# Altium integrated library TI Logic Buffer Line Driver.IntLib: 1053 symbols (part 7 of 17)
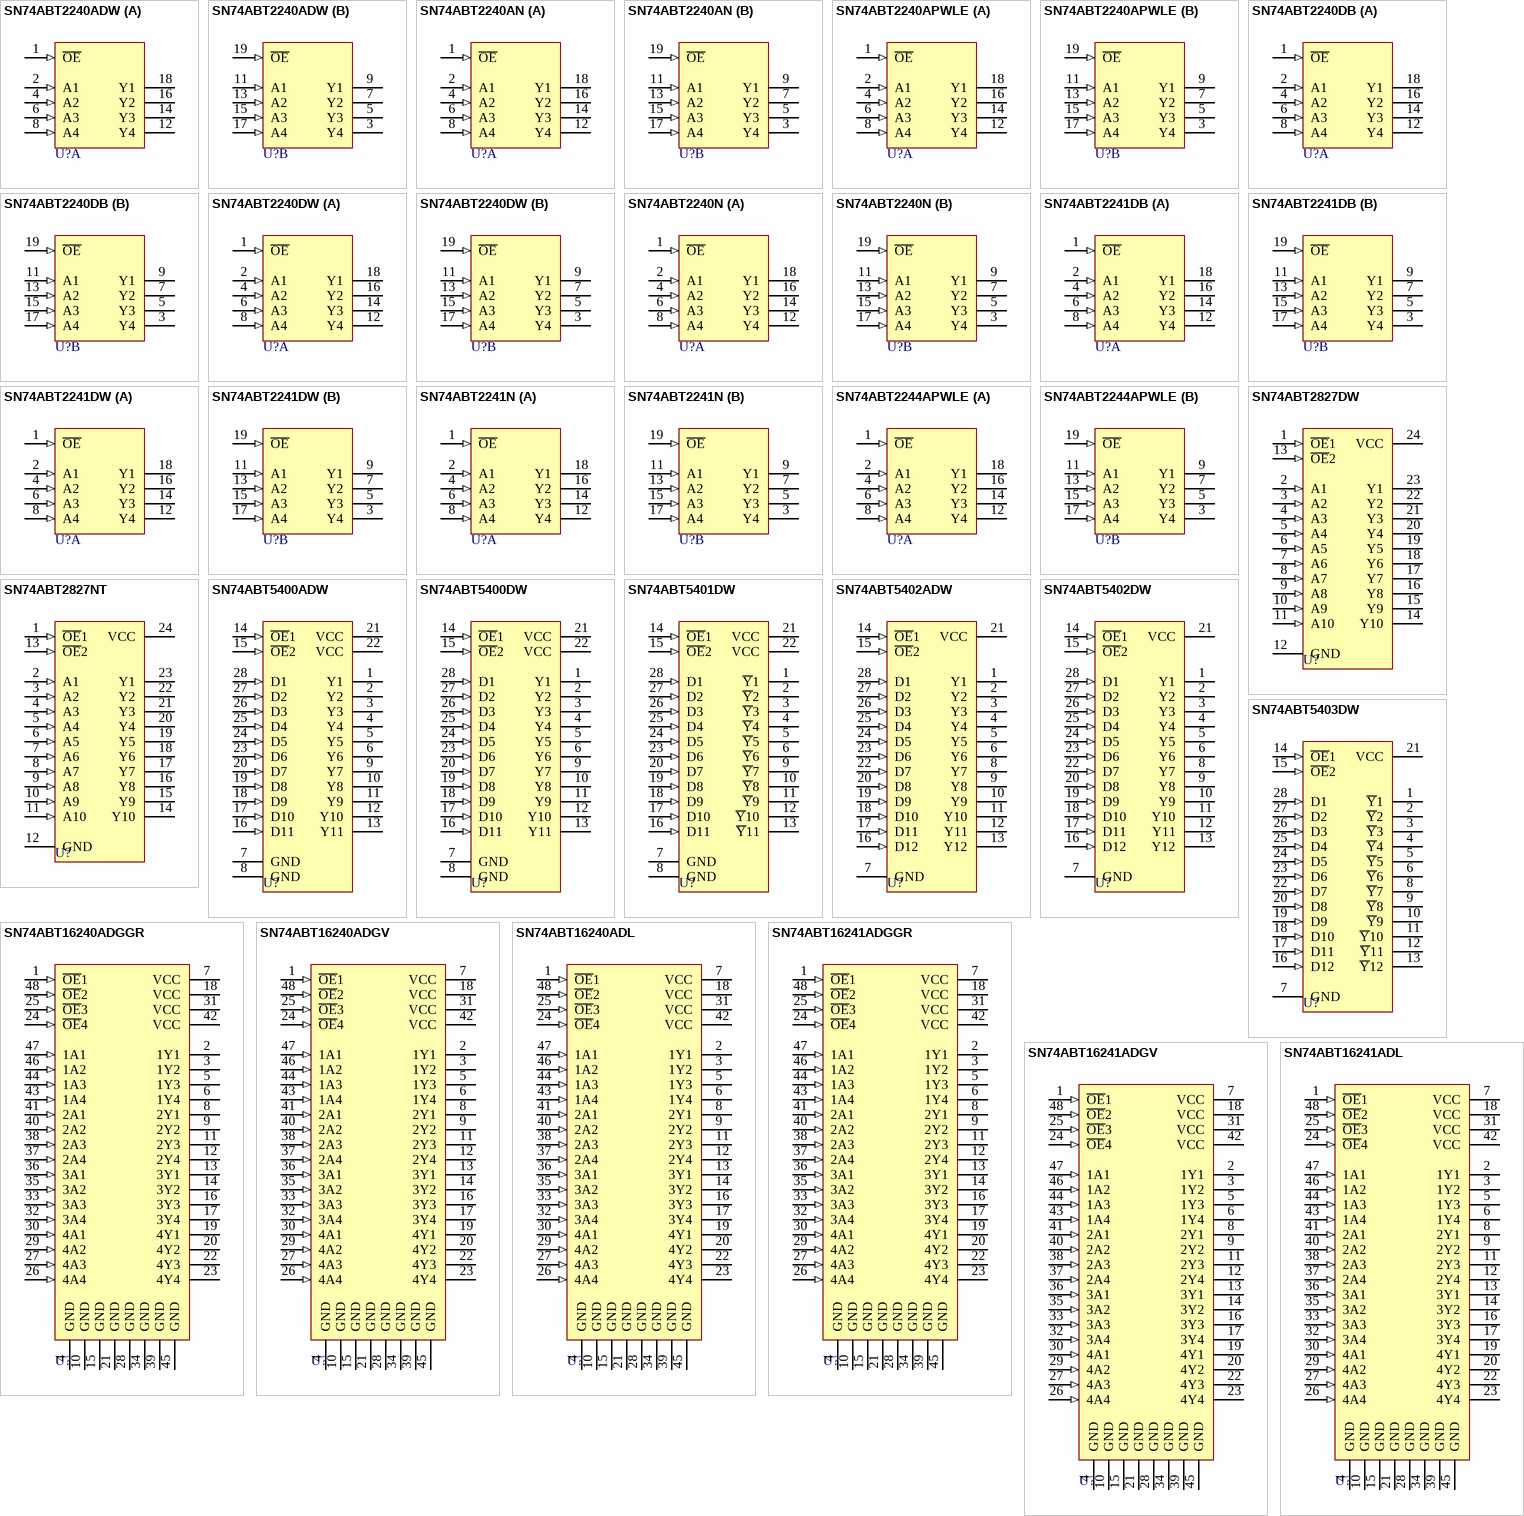
[diagram p51: symbols SN74ABT2240ADW to SN74ABT16241ADL]

## SN74ABT16241ADL
designator U?
16-Bit Buffer/Driver with 3-State Outputs; Package Information: Latest Revision: Jan-1998; Code - JEDEC: MO-118-AA; Code - IPC: SSO48; Published: 8-Jun-2000; Revision: 17-Jul-2002: Re-released for DXP Platform.; Datasheet: Latest Revision: Oct-1998; Package Reference: DL048; Publisher: Altium Limited
footprint DL048 (SSOP; 48 Leads; Body Width 7.5 mm; Pitch 0.635 mm)
signal-integrity model SN74ABT16241ADL
pins: 1 ~{OE}1 (in), 2 1Y1 (hiz), 3 1Y2 (hiz), 4 GND (power), 5 1Y3 (hiz), 6 1Y4 (hiz), 7 VCC (power), 8 2Y1 (hiz), 9 2Y2 (hiz), 10 GND (power), 11 2Y3 (hiz), 12 2Y4 (hiz), 13 3Y1 (hiz), 14 3Y2 (hiz), 15 GND (power), 16 3Y3 (hiz), 17 3Y4 (hiz), 18 VCC (power), 19 4Y1 (hiz), 20 4Y2 (hiz), 21 GND (power), 22 4Y3 (hiz), 23 4Y4 (hiz), 24 ~{OE}4 (in), 25 ~{OE}3 (in), 26 4A4 (in), 27 4A3 (in), 28 GND (power), 29 4A2 (in), 30 4A1 (in), 31 VCC (power), 32 3A4 (in), 33 3A3 (in), 34 GND (power), 35 3A2 (in), 36 3A1 (in), 37 2A4 (in), 38 2A3 (in), 39 GND (power), 40 2A2 (in), 41 2A1 (in), 42 VCC (power), 43 1A4 (in), 44 1A3 (in), 45 GND (power), 46 1A2 (in), 47 1A1 (in), 48 ~{OE}2 (in)

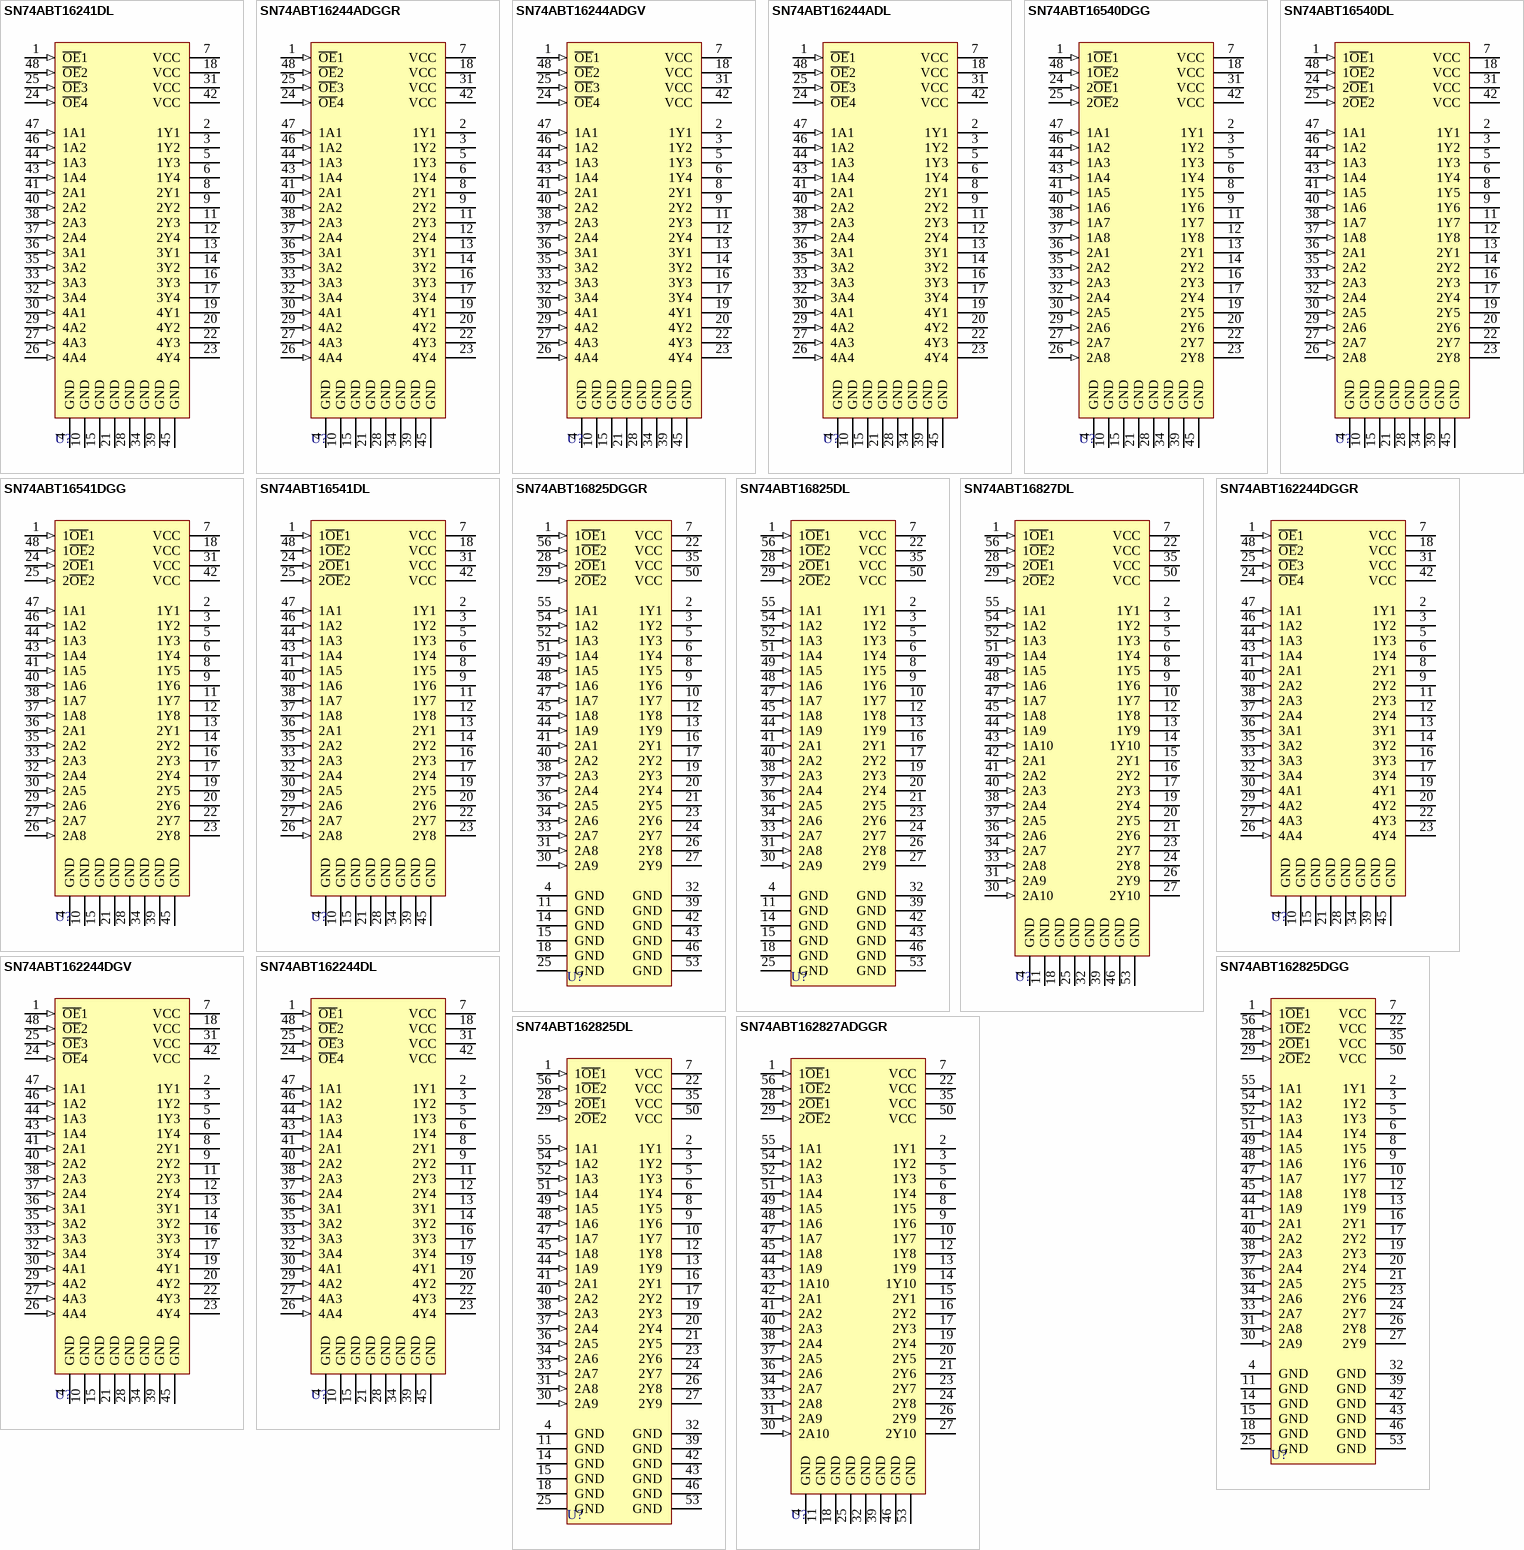
[diagram p17: symbols SN74ABT16241DL to SN74ABT162827ADGGR]

## SN74ABT16241DL
designator U?
16-Bit Buffer/Driver with 3-State Outputs; Package Information: Latest Revision: Jan-1998; Code - JEDEC: MO-118-AA; Code - IPC: SSO48; Published: 8-Jun-2000; Revision: 17-Jul-2002: Re-released for DXP Platform.; Datasheet: Latest Revision: May-1994; Package Reference: DL048; Publisher: Altium Limited
footprint DL048 (SSOP; 48 Leads; Body Width 7.5 mm; Pitch 0.635 mm)
signal-integrity model SN74ABT16241DL
pins: 1 ~{OE}1 (in), 2 1Y1 (hiz), 3 1Y2 (hiz), 4 GND (power), 5 1Y3 (hiz), 6 1Y4 (hiz), 7 VCC (power), 8 2Y1 (hiz), 9 2Y2 (hiz), 10 GND (power), 11 2Y3 (hiz), 12 2Y4 (hiz), 13 3Y1 (hiz), 14 3Y2 (hiz), 15 GND (power), 16 3Y3 (hiz), 17 3Y4 (hiz), 18 VCC (power), 19 4Y1 (hiz), 20 4Y2 (hiz), 21 GND (power), 22 4Y3 (hiz), 23 4Y4 (hiz), 24 ~{OE}4 (in), 25 ~{OE}3 (in), 26 4A4 (in), 27 4A3 (in), 28 GND (power), 29 4A2 (in), 30 4A1 (in), 31 VCC (power), 32 3A4 (in), 33 3A3 (in), 34 GND (power), 35 3A2 (in), 36 3A1 (in), 37 2A4 (in), 38 2A3 (in), 39 GND (power), 40 2A2 (in), 41 2A1 (in), 42 VCC (power), 43 1A4 (in), 44 1A3 (in), 45 GND (power), 46 1A2 (in), 47 1A1 (in), 48 ~{OE}2 (in)

## SN74ABT16244ADGGR
designator U?
16-Bit Buffer/Driver with 3-State Outputs; Package Information: Latest Revision: Jan-1998; Published: 8-Jun-2000; Revision: 17-Jul-2002: Re-released for DXP Platform.; Datasheet: Latest Revision: May-1997; Package Reference: DGG048; Publisher: Altium Limited
footprint DGG048 (Shrink Small Outline; 48 Leads; Body Width 6.1 mm; Pitch 0.5 mm)
signal-integrity model SN74ABT16244ADGGR
pins: 1 ~{OE}1 (in), 2 1Y1 (hiz), 3 1Y2 (hiz), 4 GND (power), 5 1Y3 (hiz), 6 1Y4 (hiz), 7 VCC (power), 8 2Y1 (hiz), 9 2Y2 (hiz), 10 GND (power), 11 2Y3 (hiz), 12 2Y4 (hiz), 13 3Y1 (hiz), 14 3Y2 (hiz), 15 GND (power), 16 3Y3 (hiz), 17 3Y4 (hiz), 18 VCC (power), 19 4Y1 (hiz), 20 4Y2 (hiz), 21 GND (power), 22 4Y3 (hiz), 23 4Y4 (hiz), 24 ~{OE}4 (in), 25 ~{OE}3 (in), 26 4A4 (in), 27 4A3 (in), 28 GND (power), 29 4A2 (in), 30 4A1 (in), 31 VCC (power), 32 3A4 (in), 33 3A3 (in), 34 GND (power), 35 3A2 (in), 36 3A1 (in), 37 2A4 (in), 38 2A3 (in), 39 GND (power), 40 2A2 (in), 41 2A1 (in), 42 VCC (power), 43 1A4 (in), 44 1A3 (in), 45 GND (power), 46 1A2 (in), 47 1A1 (in), 48 ~{OE}2 (in)

## SN74ABT16244ADGV
designator U?
16-Bit Buffer/Driver with 3-State Outputs; Package Information: Latest Revision: Mar-1999; Published: 8-Jun-2000; Revision: 17-Jul-2002: Re-released for DXP Platform.; Datasheet: Latest Revision: May-1997; Package Reference: DGV048; Publisher: Altium Limited
footprint DGV048 (Shrink Small Outline; 48 Leads; Body Width 4.4 mm; Pitch 0.4 mm)
signal-integrity model SN74ABT16244ADGV
pins: 1 ~{OE}1 (in), 2 1Y1 (hiz), 3 1Y2 (hiz), 4 GND (power), 5 1Y3 (hiz), 6 1Y4 (hiz), 7 VCC (power), 8 2Y1 (hiz), 9 2Y2 (hiz), 10 GND (power), 11 2Y3 (hiz), 12 2Y4 (hiz), 13 3Y1 (hiz), 14 3Y2 (hiz), 15 GND (power), 16 3Y3 (hiz), 17 3Y4 (hiz), 18 VCC (power), 19 4Y1 (hiz), 20 4Y2 (hiz), 21 GND (power), 22 4Y3 (hiz), 23 4Y4 (hiz), 24 ~{OE}4 (in), 25 ~{OE}3 (in), 26 4A4 (in), 27 4A3 (in), 28 GND (power), 29 4A2 (in), 30 4A1 (in), 31 VCC (power), 32 3A4 (in), 33 3A3 (in), 34 GND (power), 35 3A2 (in), 36 3A1 (in), 37 2A4 (in), 38 2A3 (in), 39 GND (power), 40 2A2 (in), 41 2A1 (in), 42 VCC (power), 43 1A4 (in), 44 1A3 (in), 45 GND (power), 46 1A2 (in), 47 1A1 (in), 48 ~{OE}2 (in)

## SN74ABT16244ADL
designator U?
16-Bit Buffer/Driver with 3-State Outputs; Package Information: Latest Revision: Jan-1998; Code - JEDEC: MO-118-AA; Code - IPC: SSO48; Published: 8-Jun-2000; Revision: 17-Jul-2002: Re-released for DXP Platform.; Datasheet: Latest Revision: May-1997; Package Reference: DL048; Publisher: Altium Limited
footprint DL048 (SSOP; 48 Leads; Body Width 7.5 mm; Pitch 0.635 mm)
signal-integrity model SN74ABT16244ADL
pins: 1 ~{OE}1 (in), 2 1Y1 (hiz), 3 1Y2 (hiz), 4 GND (power), 5 1Y3 (hiz), 6 1Y4 (hiz), 7 VCC (power), 8 2Y1 (hiz), 9 2Y2 (hiz), 10 GND (power), 11 2Y3 (hiz), 12 2Y4 (hiz), 13 3Y1 (hiz), 14 3Y2 (hiz), 15 GND (power), 16 3Y3 (hiz), 17 3Y4 (hiz), 18 VCC (power), 19 4Y1 (hiz), 20 4Y2 (hiz), 21 GND (power), 22 4Y3 (hiz), 23 4Y4 (hiz), 24 ~{OE}4 (in), 25 ~{OE}3 (in), 26 4A4 (in), 27 4A3 (in), 28 GND (power), 29 4A2 (in), 30 4A1 (in), 31 VCC (power), 32 3A4 (in), 33 3A3 (in), 34 GND (power), 35 3A2 (in), 36 3A1 (in), 37 2A4 (in), 38 2A3 (in), 39 GND (power), 40 2A2 (in), 41 2A1 (in), 42 VCC (power), 43 1A4 (in), 44 1A3 (in), 45 GND (power), 46 1A2 (in), 47 1A1 (in), 48 ~{OE}2 (in)

## SN74ABT16540DGG
designator U?
16-Bit Buffer/Driver with 3-State Outputs; Package Information: Latest Revision: Jan-1998; Published: 8-Jun-2000; Revision: 17-Jul-2002: Re-released for DXP Platform.; Datasheet: Latest Revision: Jul-1994; Package Reference: DGG048; Publisher: Altium Limited
footprint DGG048 (Shrink Small Outline; 48 Leads; Body Width 6.1 mm; Pitch 0.5 mm)
signal-integrity model SN74ABT16540DGG
pins: 1 1~{OE}1 (in), 2 1Y1 (hiz), 3 1Y2 (hiz), 4 GND (power), 5 1Y3 (hiz), 6 1Y4 (hiz), 7 VCC (power), 8 1Y5 (hiz), 9 1Y6 (hiz), 10 GND (power), 11 1Y7 (hiz), 12 1Y8 (hiz), 13 2Y1 (hiz), 14 2Y2 (hiz), 15 GND (power), 16 2Y3 (hiz), 17 2Y4 (hiz), 18 VCC (power), 19 2Y5 (hiz), 20 2Y6 (hiz), 21 GND (power), 22 2Y7 (hiz), 23 2Y8 (hiz), 24 2~{OE}1 (in), 25 2~{OE}2 (in), 26 2A8 (in), 27 2A7 (in), 28 GND (power), 29 2A6 (in), 30 2A5 (in), 31 VCC (power), 32 2A4 (in), 33 2A3 (in), 34 GND (power), 35 2A2 (in), 36 2A1 (in), 37 1A8 (in), 38 1A7 (in), 39 GND (power), 40 1A6 (in), 41 1A5 (in), 42 VCC (power), 43 1A4 (in), 44 1A3 (in), 45 GND (power), 46 1A2 (in), 47 1A1 (in), 48 1~{OE}2 (in)

## SN74ABT16540DL
designator U?
16-Bit Buffer/Driver with 3-State Outputs; Package Information: Latest Revision: Jan-1998; Code - JEDEC: MO-118-AA; Code - IPC: SSO48; Published: 8-Jun-2000; Revision: 17-Jul-2002: Re-released for DXP Platform.; Datasheet: Latest Revision: Jul-1994; Package Reference: DL048; Publisher: Altium Limited
footprint DL048 (SSOP; 48 Leads; Body Width 7.5 mm; Pitch 0.635 mm)
signal-integrity model SN74ABT16540DL
pins: 1 1~{OE}1 (in), 2 1Y1 (hiz), 3 1Y2 (hiz), 4 GND (power), 5 1Y3 (hiz), 6 1Y4 (hiz), 7 VCC (power), 8 1Y5 (hiz), 9 1Y6 (hiz), 10 GND (power), 11 1Y7 (hiz), 12 1Y8 (hiz), 13 2Y1 (hiz), 14 2Y2 (hiz), 15 GND (power), 16 2Y3 (hiz), 17 2Y4 (hiz), 18 VCC (power), 19 2Y5 (hiz), 20 2Y6 (hiz), 21 GND (power), 22 2Y7 (hiz), 23 2Y8 (hiz), 24 2~{OE}1 (in), 25 2~{OE}2 (in), 26 2A8 (in), 27 2A7 (in), 28 GND (power), 29 2A6 (in), 30 2A5 (in), 31 VCC (power), 32 2A4 (in), 33 2A3 (in), 34 GND (power), 35 2A2 (in), 36 2A1 (in), 37 1A8 (in), 38 1A7 (in), 39 GND (power), 40 1A6 (in), 41 1A5 (in), 42 VCC (power), 43 1A4 (in), 44 1A3 (in), 45 GND (power), 46 1A2 (in), 47 1A1 (in), 48 1~{OE}2 (in)

## SN74ABT16541DGG
designator U?
16-Bit Buffer/Driver with 3-State Outputs; Package Information: Latest Revision: Jan-1998; Published: 8-Jun-2000; Revision: 17-Jul-2002: Re-released for DXP Platform.; Datasheet: Latest Revision: Jul-1994; Package Reference: DGG048; Publisher: Altium Limited
footprint DGG048 (Shrink Small Outline; 48 Leads; Body Width 6.1 mm; Pitch 0.5 mm)
signal-integrity model SN74ABT16541DGG
pins: 1 1~{OE}1 (in), 2 1Y1 (hiz), 3 1Y2 (hiz), 4 GND (power), 5 1Y3 (hiz), 6 1Y4 (hiz), 7 VCC (power), 8 1Y5 (hiz), 9 1Y6 (hiz), 10 GND (power), 11 1Y7 (hiz), 12 1Y8 (hiz), 13 2Y1 (hiz), 14 2Y2 (hiz), 15 GND (power), 16 2Y3 (hiz), 17 2Y4 (hiz), 18 VCC (power), 19 2Y5 (hiz), 20 2Y6 (hiz), 21 GND (power), 22 2Y7 (hiz), 23 2Y8 (hiz), 24 2~{OE}1 (in), 25 2~{OE}2 (in), 26 2A8 (in), 27 2A7 (in), 28 GND (power), 29 2A6 (in), 30 2A5 (in), 31 VCC (power), 32 2A4 (in), 33 2A3 (in), 34 GND (power), 35 2A2 (in), 36 2A1 (in), 37 1A8 (in), 38 1A7 (in), 39 GND (power), 40 1A6 (in), 41 1A5 (in), 42 VCC (power), 43 1A4 (in), 44 1A3 (in), 45 GND (power), 46 1A2 (in), 47 1A1 (in), 48 1~{OE}2 (in)

## SN74ABT16541DL
designator U?
16-Bit Buffer/Driver with 3-State Outputs; Package Information: Latest Revision: Jan-1998; Code - JEDEC: MO-118-AA; Code - IPC: SSO48; Published: 8-Jun-2000; Revision: 17-Jul-2002: Re-released for DXP Platform.; Datasheet: Latest Revision: Jul-1994; Package Reference: DL048; Publisher: Altium Limited
footprint DL048 (SSOP; 48 Leads; Body Width 7.5 mm; Pitch 0.635 mm)
signal-integrity model SN74ABT16541DL
pins: 1 1~{OE}1 (in), 2 1Y1 (hiz), 3 1Y2 (hiz), 4 GND (power), 5 1Y3 (hiz), 6 1Y4 (hiz), 7 VCC (power), 8 1Y5 (hiz), 9 1Y6 (hiz), 10 GND (power), 11 1Y7 (hiz), 12 1Y8 (hiz), 13 2Y1 (hiz), 14 2Y2 (hiz), 15 GND (power), 16 2Y3 (hiz), 17 2Y4 (hiz), 18 VCC (power), 19 2Y5 (hiz), 20 2Y6 (hiz), 21 GND (power), 22 2Y7 (hiz), 23 2Y8 (hiz), 24 2~{OE}1 (in), 25 2~{OE}2 (in), 26 2A8 (in), 27 2A7 (in), 28 GND (power), 29 2A6 (in), 30 2A5 (in), 31 VCC (power), 32 2A4 (in), 33 2A3 (in), 34 GND (power), 35 2A2 (in), 36 2A1 (in), 37 1A8 (in), 38 1A7 (in), 39 GND (power), 40 1A6 (in), 41 1A5 (in), 42 VCC (power), 43 1A4 (in), 44 1A3 (in), 45 GND (power), 46 1A2 (in), 47 1A1 (in), 48 1~{OE}2 (in)

## SN74ABT16825DGGR
designator U?
18-Bit Buffer/Driver with 3-State Outputs; Package Information: Latest Revision: Jan-1998; Published: 8-Jun-2000; Revision: 17-Jul-2002: Re-released for DXP Platform.; Datasheet: Latest Revision: May-1997; Package Reference: DGG056; Publisher: Altium Limited
footprint DGG056 (Shrink Small Outline; 56 Leads; Body Width 6.1 mm; Pitch 0.5 mm)
signal-integrity model SN74ABT16825DGGR
pins: 1 1~{OE}1 (in), 2 1Y1 (hiz), 3 1Y2 (hiz), 4 GND (power), 5 1Y3 (hiz), 6 1Y4 (hiz), 7 VCC (power), 8 1Y5 (hiz), 9 1Y6 (hiz), 10 1Y7 (hiz), 11 GND (power), 12 1Y8 (hiz), 13 1Y9 (hiz), 14 GND (power), 15 GND (power), 16 2Y1 (hiz), 17 2Y2 (hiz), 18 GND (power), 19 2Y3 (hiz), 20 2Y4 (hiz), 21 2Y5 (hiz), 22 VCC (power), 23 2Y6 (hiz), 24 2Y7 (hiz), 25 GND (power), 26 2Y8 (hiz), 27 2Y9 (hiz), 28 2~{OE}1 (in), 29 2~{OE}2 (in), 30 2A9 (in), 31 2A8 (in), 32 GND (power), 33 2A7 (in), 34 2A6 (in), 35 VCC (power), 36 2A5 (in), 37 2A4 (in), 38 2A3 (in), 39 GND (power), 40 2A2 (in), 41 2A1 (in), 42 GND (power), 43 GND (power), 44 1A9 (in), 45 1A8 (in), 46 GND (power), 47 1A7 (in), 48 1A6 (in), 49 1A5 (in), 50 VCC (power), 51 1A4 (in), 52 1A3 (in), 53 GND (power), 54 1A2 (in), 55 1A1 (in), 56 1~{OE}2 (in)

## SN74ABT16825DL
designator U?
18-Bit Buffer/Driver with 3-State Outputs; Package Information: Latest Revision: Jan-1998; Code - JEDEC: MO-118-AB; Code - IPC: SSO56; Published: 8-Jun-2000; Revision: 17-Jul-2002: Re-released for DXP Platform.; Datasheet: Latest Revision: May-1997; Package Reference: DL056; Publisher: Altium Limited
footprint DL056 (SSOP; 56 Leads; Body Width 7.5 mm; Pitch 0.635 mm)
signal-integrity model SN74ABT16825DL
pins: 1 1~{OE}1 (in), 2 1Y1 (hiz), 3 1Y2 (hiz), 4 GND (power), 5 1Y3 (hiz), 6 1Y4 (hiz), 7 VCC (power), 8 1Y5 (hiz), 9 1Y6 (hiz), 10 1Y7 (hiz), 11 GND (power), 12 1Y8 (hiz), 13 1Y9 (hiz), 14 GND (power), 15 GND (power), 16 2Y1 (hiz), 17 2Y2 (hiz), 18 GND (power), 19 2Y3 (hiz), 20 2Y4 (hiz), 21 2Y5 (hiz), 22 VCC (power), 23 2Y6 (hiz), 24 2Y7 (hiz), 25 GND (power), 26 2Y8 (hiz), 27 2Y9 (hiz), 28 2~{OE}1 (in), 29 2~{OE}2 (in), 30 2A9 (in), 31 2A8 (in), 32 GND (power), 33 2A7 (in), 34 2A6 (in), 35 VCC (power), 36 2A5 (in), 37 2A4 (in), 38 2A3 (in), 39 GND (power), 40 2A2 (in), 41 2A1 (in), 42 GND (power), 43 GND (power), 44 1A9 (in), 45 1A8 (in), 46 GND (power), 47 1A7 (in), 48 1A6 (in), 49 1A5 (in), 50 VCC (power), 51 1A4 (in), 52 1A3 (in), 53 GND (power), 54 1A2 (in), 55 1A1 (in), 56 1~{OE}2 (in)

## SN74ABT16827DL
designator U?
20-Bit Buffer/Driver with 3-State Outputs; Package Information: Latest Revision: Jan-1998; Code - JEDEC: MO-118-AB; Code - IPC: SSO56; Published: 8-Jun-2000; Revision: 17-Jul-2002: Re-released for DXP Platform.; Datasheet: Latest Revision: May-1997; Package Reference: DL056; Publisher: Altium Limited
footprint DL056 (SSOP; 56 Leads; Body Width 7.5 mm; Pitch 0.635 mm)
signal-integrity model SN74ABT16827DL
pins: 1 1~{OE}1 (in), 2 1Y1 (hiz), 3 1Y2 (hiz), 4 GND (power), 5 1Y3 (hiz), 6 1Y4 (hiz), 7 VCC (power), 8 1Y5 (hiz), 9 1Y6 (hiz), 10 1Y7 (hiz), 11 GND (power), 12 1Y8 (hiz), 13 1Y9 (hiz), 14 1Y10 (hiz), 15 2Y1 (hiz), 16 2Y2 (hiz), 17 2Y3 (hiz), 18 GND (power), 19 2Y4 (hiz), 20 2Y5 (hiz), 21 2Y6 (hiz), 22 VCC (power), 23 2Y7 (hiz), 24 2Y8 (hiz), 25 GND (power), 26 2Y9 (hiz), 27 2Y10 (hiz), 28 2~{OE}1 (in), 29 2~{OE}2 (in), 30 2A10 (in), 31 2A9 (in), 32 GND (power), 33 2A8 (in), 34 2A7 (in), 35 VCC (power), 36 2A6 (in), 37 2A5 (in), 38 2A4 (in), 39 GND (power), 40 2A3 (in), 41 2A2 (in), 42 2A1 (in), 43 1A10 (in), 44 1A9 (in), 45 1A8 (in), 46 GND (power), 47 1A7 (in), 48 1A6 (in), 49 1A5 (in), 50 VCC (power), 51 1A4 (in), 52 1A3 (in), 53 GND (power), 54 1A2 (in), 55 1A1 (in), 56 1~{OE}2 (in)

## SN74ABT162244DGGR
designator U?
16-Bit Buffer/Driver with 3-State Outputs; Package Information: Latest Revision: Jan-1998; Published: 8-Jun-2000; Revision: 17-Jul-2002: Re-released for DXP Platform.; Datasheet: Latest Revision: May-1997; Package Reference: DGG048; Publisher: Altium Limited
footprint DGG048 (Shrink Small Outline; 48 Leads; Body Width 6.1 mm; Pitch 0.5 mm)
signal-integrity model SN74ABT162244DGGR
pins: 1 ~{OE}1 (in), 2 1Y1 (hiz), 3 1Y2 (hiz), 4 GND (power), 5 1Y3 (hiz), 6 1Y4 (hiz), 7 VCC (power), 8 2Y1 (hiz), 9 2Y2 (hiz), 10 GND (power), 11 2Y3 (hiz), 12 2Y4 (hiz), 13 3Y1 (hiz), 14 3Y2 (hiz), 15 GND (power), 16 3Y3 (hiz), 17 3Y4 (hiz), 18 VCC (power), 19 4Y1 (hiz), 20 4Y2 (hiz), 21 GND (power), 22 4Y3 (hiz), 23 4Y4 (hiz), 24 ~{OE}4 (in), 25 ~{OE}3 (in), 26 4A4 (in), 27 4A3 (in), 28 GND (power), 29 4A2 (in), 30 4A1 (in), 31 VCC (power), 32 3A4 (in), 33 3A3 (in), 34 GND (power), 35 3A2 (in), 36 3A1 (in), 37 2A4 (in), 38 2A3 (in), 39 GND (power), 40 2A2 (in), 41 2A1 (in), 42 VCC (power), 43 1A4 (in), 44 1A3 (in), 45 GND (power), 46 1A2 (in), 47 1A1 (in), 48 ~{OE}2 (in)

## SN74ABT162244DGV
designator U?
16-Bit Buffer/Driver with 3-State Outputs; Package Information: Latest Revision: Mar-1999; Published: 8-Jun-2000; Revision: 17-Jul-2002: Re-released for DXP Platform.; Datasheet: Latest Revision: May-1997; Package Reference: DGV048; Publisher: Altium Limited
footprint DGV048 (Shrink Small Outline; 48 Leads; Body Width 4.4 mm; Pitch 0.4 mm)
signal-integrity model SN74ABT162244DGV
pins: 1 ~{OE}1 (in), 2 1Y1 (hiz), 3 1Y2 (hiz), 4 GND (power), 5 1Y3 (hiz), 6 1Y4 (hiz), 7 VCC (power), 8 2Y1 (hiz), 9 2Y2 (hiz), 10 GND (power), 11 2Y3 (hiz), 12 2Y4 (hiz), 13 3Y1 (hiz), 14 3Y2 (hiz), 15 GND (power), 16 3Y3 (hiz), 17 3Y4 (hiz), 18 VCC (power), 19 4Y1 (hiz), 20 4Y2 (hiz), 21 GND (power), 22 4Y3 (hiz), 23 4Y4 (hiz), 24 ~{OE}4 (in), 25 ~{OE}3 (in), 26 4A4 (in), 27 4A3 (in), 28 GND (power), 29 4A2 (in), 30 4A1 (in), 31 VCC (power), 32 3A4 (in), 33 3A3 (in), 34 GND (power), 35 3A2 (in), 36 3A1 (in), 37 2A4 (in), 38 2A3 (in), 39 GND (power), 40 2A2 (in), 41 2A1 (in), 42 VCC (power), 43 1A4 (in), 44 1A3 (in), 45 GND (power), 46 1A2 (in), 47 1A1 (in), 48 ~{OE}2 (in)

## SN74ABT162244DL
designator U?
16-Bit Buffer/Driver with 3-State Outputs; Package Information: Latest Revision: Jan-1998; Code - JEDEC: MO-118-AA; Code - IPC: SSO48; Published: 8-Jun-2000; Revision: 17-Jul-2002: Re-released for DXP Platform.; Datasheet: Latest Revision: May-1997; Package Reference: DL048; Publisher: Altium Limited
footprint DL048 (SSOP; 48 Leads; Body Width 7.5 mm; Pitch 0.635 mm)
signal-integrity model SN74ABT162244DL
pins: 1 ~{OE}1 (in), 2 1Y1 (hiz), 3 1Y2 (hiz), 4 GND (power), 5 1Y3 (hiz), 6 1Y4 (hiz), 7 VCC (power), 8 2Y1 (hiz), 9 2Y2 (hiz), 10 GND (power), 11 2Y3 (hiz), 12 2Y4 (hiz), 13 3Y1 (hiz), 14 3Y2 (hiz), 15 GND (power), 16 3Y3 (hiz), 17 3Y4 (hiz), 18 VCC (power), 19 4Y1 (hiz), 20 4Y2 (hiz), 21 GND (power), 22 4Y3 (hiz), 23 4Y4 (hiz), 24 ~{OE}4 (in), 25 ~{OE}3 (in), 26 4A4 (in), 27 4A3 (in), 28 GND (power), 29 4A2 (in), 30 4A1 (in), 31 VCC (power), 32 3A4 (in), 33 3A3 (in), 34 GND (power), 35 3A2 (in), 36 3A1 (in), 37 2A4 (in), 38 2A3 (in), 39 GND (power), 40 2A2 (in), 41 2A1 (in), 42 VCC (power), 43 1A4 (in), 44 1A3 (in), 45 GND (power), 46 1A2 (in), 47 1A1 (in), 48 ~{OE}2 (in)

## SN74ABT162825DGG
designator U?
18-Bit Buffer/Driver with 3-State Outputs; Package Information: Latest Revision: Jan-1998; Published: 8-Jun-2000; Revision: 17-Jul-2002: Re-released for DXP Platform.; Datasheet: Latest Revision: Jul-1995; Package Reference: DGG056; Publisher: Altium Limited
footprint DGG056 (Shrink Small Outline; 56 Leads; Body Width 6.1 mm; Pitch 0.5 mm)
signal-integrity model SN74ABT162825DGG
pins: 1 1~{OE}1 (in), 2 1Y1 (hiz), 3 1Y2 (hiz), 4 GND (power), 5 1Y3 (hiz), 6 1Y4 (hiz), 7 VCC (power), 8 1Y5 (hiz), 9 1Y6 (hiz), 10 1Y7 (hiz), 11 GND (power), 12 1Y8 (hiz), 13 1Y9 (hiz), 14 GND (power), 15 GND (power), 16 2Y1 (hiz), 17 2Y2 (hiz), 18 GND (power), 19 2Y3 (hiz), 20 2Y4 (hiz), 21 2Y5 (hiz), 22 VCC (power), 23 2Y6 (hiz), 24 2Y7 (hiz), 25 GND (power), 26 2Y8 (hiz), 27 2Y9 (hiz), 28 2~{OE}1 (in), 29 2~{OE}2 (in), 30 2A9 (in), 31 2A8 (in), 32 GND (power), 33 2A7 (in), 34 2A6 (in), 35 VCC (power), 36 2A5 (in), 37 2A4 (in), 38 2A3 (in), 39 GND (power), 40 2A2 (in), 41 2A1 (in), 42 GND (power), 43 GND (power), 44 1A9 (in), 45 1A8 (in), 46 GND (power), 47 1A7 (in), 48 1A6 (in), 49 1A5 (in), 50 VCC (power), 51 1A4 (in), 52 1A3 (in), 53 GND (power), 54 1A2 (in), 55 1A1 (in), 56 1~{OE}2 (in)

## SN74ABT162825DL
designator U?
18-Bit Buffer/Driver with 3-State Outputs; Package Information: Latest Revision: Jan-1998; Code - JEDEC: MO-118-AB; Code - IPC: SSO56; Published: 8-Jun-2000; Revision: 17-Jul-2002: Re-released for DXP Platform.; Datasheet: Latest Revision: May-1997; Package Reference: DL056; Publisher: Altium Limited
footprint DL056 (SSOP; 56 Leads; Body Width 7.5 mm; Pitch 0.635 mm)
signal-integrity model SN74ABT162825DL
pins: 1 1~{OE}1 (in), 2 1Y1 (hiz), 3 1Y2 (hiz), 4 GND (power), 5 1Y3 (hiz), 6 1Y4 (hiz), 7 VCC (power), 8 1Y5 (hiz), 9 1Y6 (hiz), 10 1Y7 (hiz), 11 GND (power), 12 1Y8 (hiz), 13 1Y9 (hiz), 14 GND (power), 15 GND (power), 16 2Y1 (hiz), 17 2Y2 (hiz), 18 GND (power), 19 2Y3 (hiz), 20 2Y4 (hiz), 21 2Y5 (hiz), 22 VCC (power), 23 2Y6 (hiz), 24 2Y7 (hiz), 25 GND (power), 26 2Y8 (hiz), 27 2Y9 (hiz), 28 2~{OE}1 (in), 29 2~{OE}2 (in), 30 2A9 (in), 31 2A8 (in), 32 GND (power), 33 2A7 (in), 34 2A6 (in), 35 VCC (power), 36 2A5 (in), 37 2A4 (in), 38 2A3 (in), 39 GND (power), 40 2A2 (in), 41 2A1 (in), 42 GND (power), 43 GND (power), 44 1A9 (in), 45 1A8 (in), 46 GND (power), 47 1A7 (in), 48 1A6 (in), 49 1A5 (in), 50 VCC (power), 51 1A4 (in), 52 1A3 (in), 53 GND (power), 54 1A2 (in), 55 1A1 (in), 56 1~{OE}2 (in)

## SN74ABT162827ADGGR
designator U?
20-Bit Buffer/Driver with 3-State Outputs; Package Information: Latest Revision: Jan-1998; Published: 8-Jun-2000; Revision: 17-Jul-2002: Re-released for DXP Platform.; Datasheet: Latest Revision: May-1997; Package Reference: DGG056; Publisher: Altium Limited
footprint DGG056 (Shrink Small Outline; 56 Leads; Body Width 6.1 mm; Pitch 0.5 mm)
signal-integrity model SN74ABT162827ADGGR
pins: 1 1~{OE}1 (in), 2 1Y1 (hiz), 3 1Y2 (hiz), 4 GND (power), 5 1Y3 (hiz), 6 1Y4 (hiz), 7 VCC (power), 8 1Y5 (hiz), 9 1Y6 (hiz), 10 1Y7 (hiz), 11 GND (power), 12 1Y8 (hiz), 13 1Y9 (hiz), 14 1Y10 (hiz), 15 2Y1 (hiz), 16 2Y2 (hiz), 17 2Y3 (hiz), 18 GND (power), 19 2Y4 (hiz), 20 2Y5 (hiz), 21 2Y6 (hiz), 22 VCC (power), 23 2Y7 (hiz), 24 2Y8 (hiz), 25 GND (power), 26 2Y9 (hiz), 27 2Y10 (hiz), 28 2~{OE}1 (in), 29 2~{OE}2 (in), 30 2A10 (in), 31 2A9 (in), 32 GND (power), 33 2A8 (in), 34 2A7 (in), 35 VCC (power), 36 2A6 (in), 37 2A5 (in), 38 2A4 (in), 39 GND (power), 40 2A3 (in), 41 2A2 (in), 42 2A1 (in), 43 1A10 (in), 44 1A9 (in), 45 1A8 (in), 46 GND (power), 47 1A7 (in), 48 1A6 (in), 49 1A5 (in), 50 VCC (power), 51 1A4 (in), 52 1A3 (in), 53 GND (power), 54 1A2 (in), 55 1A1 (in), 56 1~{OE}2 (in)

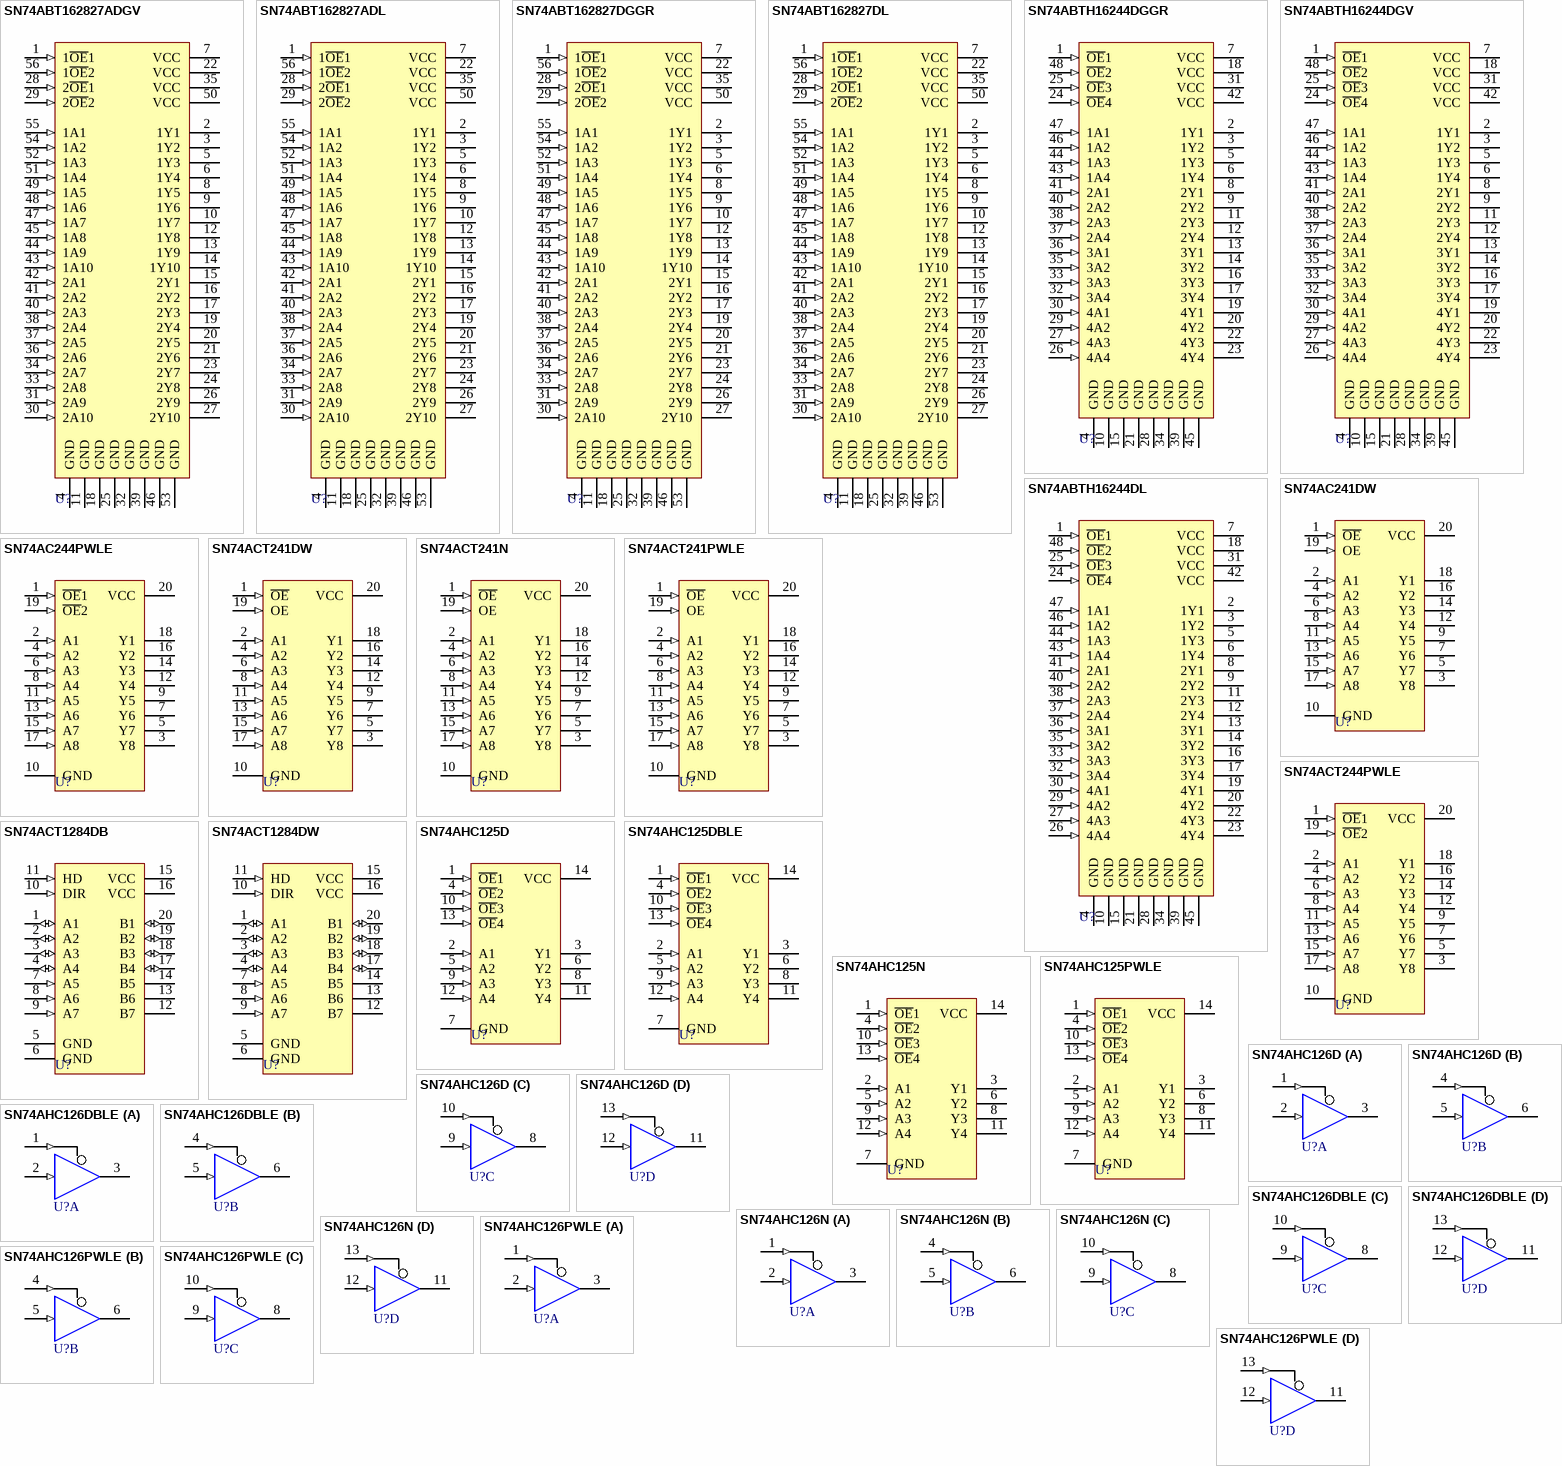
[diagram p18: symbols SN74ABT162827ADGV to SN74AHC126PWLE]

## SN74ABT162827ADGV
designator U?
20-Bit Buffer/Driver with 3-State Outputs; Package Information: Latest Revision: Mar-1999; Published: 8-Jun-2000; Revision: 17-Jul-2002: Re-released for DXP Platform.; Datasheet: Latest Revision: May-1997; Package Reference: DGV056; Publisher: Altium Limited
footprint DGV056 (Shrink Small Outline; 56 Leads; Body Width 4.4 mm; Pitch 0.4 mm)
signal-integrity model SN74ABT162827ADGV
pins: 1 1~{OE}1 (in), 2 1Y1 (hiz), 3 1Y2 (hiz), 4 GND (power), 5 1Y3 (hiz), 6 1Y4 (hiz), 7 VCC (power), 8 1Y5 (hiz), 9 1Y6 (hiz), 10 1Y7 (hiz), 11 GND (power), 12 1Y8 (hiz), 13 1Y9 (hiz), 14 1Y10 (hiz), 15 2Y1 (hiz), 16 2Y2 (hiz), 17 2Y3 (hiz), 18 GND (power), 19 2Y4 (hiz), 20 2Y5 (hiz), 21 2Y6 (hiz), 22 VCC (power), 23 2Y7 (hiz), 24 2Y8 (hiz), 25 GND (power), 26 2Y9 (hiz), 27 2Y10 (hiz), 28 2~{OE}1 (in), 29 2~{OE}2 (in), 30 2A10 (in), 31 2A9 (in), 32 GND (power), 33 2A8 (in), 34 2A7 (in), 35 VCC (power), 36 2A6 (in), 37 2A5 (in), 38 2A4 (in), 39 GND (power), 40 2A3 (in), 41 2A2 (in), 42 2A1 (in), 43 1A10 (in), 44 1A9 (in), 45 1A8 (in), 46 GND (power), 47 1A7 (in), 48 1A6 (in), 49 1A5 (in), 50 VCC (power), 51 1A4 (in), 52 1A3 (in), 53 GND (power), 54 1A2 (in), 55 1A1 (in), 56 1~{OE}2 (in)

## SN74ABT162827ADL
designator U?
20-Bit Buffer/Driver with 3-State Outputs; Package Information: Latest Revision: Jan-1998; Code - JEDEC: MO-118-AB; Code - IPC: SSO56; Published: 8-Jun-2000; Revision: 17-Jul-2002: Re-released for DXP Platform.; Datasheet: Latest Revision: May-1997; Package Reference: DL056; Publisher: Altium Limited
footprint DL056 (SSOP; 56 Leads; Body Width 7.5 mm; Pitch 0.635 mm)
signal-integrity model SN74ABT162827ADL
pins: 1 1~{OE}1 (in), 2 1Y1 (hiz), 3 1Y2 (hiz), 4 GND (power), 5 1Y3 (hiz), 6 1Y4 (hiz), 7 VCC (power), 8 1Y5 (hiz), 9 1Y6 (hiz), 10 1Y7 (hiz), 11 GND (power), 12 1Y8 (hiz), 13 1Y9 (hiz), 14 1Y10 (hiz), 15 2Y1 (hiz), 16 2Y2 (hiz), 17 2Y3 (hiz), 18 GND (power), 19 2Y4 (hiz), 20 2Y5 (hiz), 21 2Y6 (hiz), 22 VCC (power), 23 2Y7 (hiz), 24 2Y8 (hiz), 25 GND (power), 26 2Y9 (hiz), 27 2Y10 (hiz), 28 2~{OE}1 (in), 29 2~{OE}2 (in), 30 2A10 (in), 31 2A9 (in), 32 GND (power), 33 2A8 (in), 34 2A7 (in), 35 VCC (power), 36 2A6 (in), 37 2A5 (in), 38 2A4 (in), 39 GND (power), 40 2A3 (in), 41 2A2 (in), 42 2A1 (in), 43 1A10 (in), 44 1A9 (in), 45 1A8 (in), 46 GND (power), 47 1A7 (in), 48 1A6 (in), 49 1A5 (in), 50 VCC (power), 51 1A4 (in), 52 1A3 (in), 53 GND (power), 54 1A2 (in), 55 1A1 (in), 56 1~{OE}2 (in)

## SN74ABT162827DGGR
designator U?
20-Bit Buffer/Driver with 3-State Outputs; Package Information: Latest Revision: Jan-1998; Published: 8-Jun-2000; Revision: 17-Jul-2002: Re-released for DXP Platform.; Datasheet: Latest Revision: Dec-1994; Package Reference: DGG056; Publisher: Altium Limited
footprint DGG056 (Shrink Small Outline; 56 Leads; Body Width 6.1 mm; Pitch 0.5 mm)
signal-integrity model SN74ABT162827DGGR
pins: 1 1~{OE}1 (in), 2 1Y1 (hiz), 3 1Y2 (hiz), 4 GND (power), 5 1Y3 (hiz), 6 1Y4 (hiz), 7 VCC (power), 8 1Y5 (hiz), 9 1Y6 (hiz), 10 1Y7 (hiz), 11 GND (power), 12 1Y8 (hiz), 13 1Y9 (hiz), 14 1Y10 (hiz), 15 2Y1 (hiz), 16 2Y2 (hiz), 17 2Y3 (hiz), 18 GND (power), 19 2Y4 (hiz), 20 2Y5 (hiz), 21 2Y6 (hiz), 22 VCC (power), 23 2Y7 (hiz), 24 2Y8 (hiz), 25 GND (power), 26 2Y9 (hiz), 27 2Y10 (hiz), 28 2~{OE}1 (in), 29 2~{OE}2 (in), 30 2A10 (in), 31 2A9 (in), 32 GND (power), 33 2A8 (in), 34 2A7 (in), 35 VCC (power), 36 2A6 (in), 37 2A5 (in), 38 2A4 (in), 39 GND (power), 40 2A3 (in), 41 2A2 (in), 42 2A1 (in), 43 1A10 (in), 44 1A9 (in), 45 1A8 (in), 46 GND (power), 47 1A7 (in), 48 1A6 (in), 49 1A5 (in), 50 VCC (power), 51 1A4 (in), 52 1A3 (in), 53 GND (power), 54 1A2 (in), 55 1A1 (in), 56 1~{OE}2 (in)

## SN74ABT162827DL
designator U?
20-Bit Buffer/Driver with 3-State Outputs; Package Information: Latest Revision: Jan-1998; Code - JEDEC: MO-118-AB; Code - IPC: SSO56; Published: 8-Jun-2000; Revision: 17-Jul-2002: Re-released for DXP Platform.; Datasheet: Latest Revision: Dec-1994; Package Reference: DL056; Publisher: Altium Limited
footprint DL056 (SSOP; 56 Leads; Body Width 7.5 mm; Pitch 0.635 mm)
signal-integrity model SN74ABT162827DL
pins: 1 1~{OE}1 (in), 2 1Y1 (hiz), 3 1Y2 (hiz), 4 GND (power), 5 1Y3 (hiz), 6 1Y4 (hiz), 7 VCC (power), 8 1Y5 (hiz), 9 1Y6 (hiz), 10 1Y7 (hiz), 11 GND (power), 12 1Y8 (hiz), 13 1Y9 (hiz), 14 1Y10 (hiz), 15 2Y1 (hiz), 16 2Y2 (hiz), 17 2Y3 (hiz), 18 GND (power), 19 2Y4 (hiz), 20 2Y5 (hiz), 21 2Y6 (hiz), 22 VCC (power), 23 2Y7 (hiz), 24 2Y8 (hiz), 25 GND (power), 26 2Y9 (hiz), 27 2Y10 (hiz), 28 2~{OE}1 (in), 29 2~{OE}2 (in), 30 2A10 (in), 31 2A9 (in), 32 GND (power), 33 2A8 (in), 34 2A7 (in), 35 VCC (power), 36 2A6 (in), 37 2A5 (in), 38 2A4 (in), 39 GND (power), 40 2A3 (in), 41 2A2 (in), 42 2A1 (in), 43 1A10 (in), 44 1A9 (in), 45 1A8 (in), 46 GND (power), 47 1A7 (in), 48 1A6 (in), 49 1A5 (in), 50 VCC (power), 51 1A4 (in), 52 1A3 (in), 53 GND (power), 54 1A2 (in), 55 1A1 (in), 56 1~{OE}2 (in)

## SN74ABTH16244DGGR
designator U?
16-Bit Buffer/Driver with 3-State Outputs; Package Information: Latest Revision: Jan-1998; Published: 8-Jun-2000; Revision: 17-Jul-2002: Re-released for DXP Platform.; Datasheet: Latest Revision: May-1997; Package Reference: DGG048; Publisher: Altium Limited
footprint DGG048 (Shrink Small Outline; 48 Leads; Body Width 6.1 mm; Pitch 0.5 mm)
pins: 1 ~{OE}1 (in), 2 1Y1 (hiz), 3 1Y2 (hiz), 4 GND (power), 5 1Y3 (hiz), 6 1Y4 (hiz), 7 VCC (power), 8 2Y1 (hiz), 9 2Y2 (hiz), 10 GND (power), 11 2Y3 (hiz), 12 2Y4 (hiz), 13 3Y1 (hiz), 14 3Y2 (hiz), 15 GND (power), 16 3Y3 (hiz), 17 3Y4 (hiz), 18 VCC (power), 19 4Y1 (hiz), 20 4Y2 (hiz), 21 GND (power), 22 4Y3 (hiz), 23 4Y4 (hiz), 24 ~{OE}4 (in), 25 ~{OE}3 (in), 26 4A4 (in), 27 4A3 (in), 28 GND (power), 29 4A2 (in), 30 4A1 (in), 31 VCC (power), 32 3A4 (in), 33 3A3 (in), 34 GND (power), 35 3A2 (in), 36 3A1 (in), 37 2A4 (in), 38 2A3 (in), 39 GND (power), 40 2A2 (in), 41 2A1 (in), 42 VCC (power), 43 1A4 (in), 44 1A3 (in), 45 GND (power), 46 1A2 (in), 47 1A1 (in), 48 ~{OE}2 (in)

## SN74ABTH16244DGV
designator U?
16-Bit Buffer/Driver with 3-State Outputs; Package Information: Latest Revision: Mar-1999; Published: 8-Jun-2000; Revision: 17-Jul-2002: Re-released for DXP Platform.; Datasheet: Latest Revision: May-1997; Package Reference: DGV048; Publisher: Altium Limited
footprint DGV048 (Shrink Small Outline; 48 Leads; Body Width 4.4 mm; Pitch 0.4 mm)
pins: 1 ~{OE}1 (in), 2 1Y1 (hiz), 3 1Y2 (hiz), 4 GND (power), 5 1Y3 (hiz), 6 1Y4 (hiz), 7 VCC (power), 8 2Y1 (hiz), 9 2Y2 (hiz), 10 GND (power), 11 2Y3 (hiz), 12 2Y4 (hiz), 13 3Y1 (hiz), 14 3Y2 (hiz), 15 GND (power), 16 3Y3 (hiz), 17 3Y4 (hiz), 18 VCC (power), 19 4Y1 (hiz), 20 4Y2 (hiz), 21 GND (power), 22 4Y3 (hiz), 23 4Y4 (hiz), 24 ~{OE}4 (in), 25 ~{OE}3 (in), 26 4A4 (in), 27 4A3 (in), 28 GND (power), 29 4A2 (in), 30 4A1 (in), 31 VCC (power), 32 3A4 (in), 33 3A3 (in), 34 GND (power), 35 3A2 (in), 36 3A1 (in), 37 2A4 (in), 38 2A3 (in), 39 GND (power), 40 2A2 (in), 41 2A1 (in), 42 VCC (power), 43 1A4 (in), 44 1A3 (in), 45 GND (power), 46 1A2 (in), 47 1A1 (in), 48 ~{OE}2 (in)

## SN74ABTH16244DL
designator U?
16-Bit Buffer/Driver with 3-State Outputs; Package Information: Latest Revision: Jan-1998; Code - JEDEC: MO-118-AA; Code - IPC: SSO48; Published: 8-Jun-2000; Revision: 17-Jul-2002: Re-released for DXP Platform.; Datasheet: Latest Revision: May-1997; Package Reference: DL048; Publisher: Altium Limited
footprint DL048 (SSOP; 48 Leads; Body Width 7.5 mm; Pitch 0.635 mm)
pins: 1 ~{OE}1 (in), 2 1Y1 (hiz), 3 1Y2 (hiz), 4 GND (power), 5 1Y3 (hiz), 6 1Y4 (hiz), 7 VCC (power), 8 2Y1 (hiz), 9 2Y2 (hiz), 10 GND (power), 11 2Y3 (hiz), 12 2Y4 (hiz), 13 3Y1 (hiz), 14 3Y2 (hiz), 15 GND (power), 16 3Y3 (hiz), 17 3Y4 (hiz), 18 VCC (power), 19 4Y1 (hiz), 20 4Y2 (hiz), 21 GND (power), 22 4Y3 (hiz), 23 4Y4 (hiz), 24 ~{OE}4 (in), 25 ~{OE}3 (in), 26 4A4 (in), 27 4A3 (in), 28 GND (power), 29 4A2 (in), 30 4A1 (in), 31 VCC (power), 32 3A4 (in), 33 3A3 (in), 34 GND (power), 35 3A2 (in), 36 3A1 (in), 37 2A4 (in), 38 2A3 (in), 39 GND (power), 40 2A2 (in), 41 2A1 (in), 42 VCC (power), 43 1A4 (in), 44 1A3 (in), 45 GND (power), 46 1A2 (in), 47 1A1 (in), 48 ~{OE}2 (in)

## SN74AC241DW
designator U?
Octal  Buffer/Driver with 3-State Output; Package Information: Latest Revision: Mar-2000; Code - JEDEC: MS-013; Published: 8-Jun-2000; Revision: 17-Jul-2002: Re-released for DXP Platform.; Datasheet: Latest Revision: Sep-1996; Package Reference: DW020; Publisher: Altium Limited
footprint DW020 (Plastic Small Outline; 20 Leads; Body Width 7.5 mm)
signal-integrity model SN74AC241DW
pins: 1 ~{OE}  (in), 2 A1 (in), 3 Y8 (hiz), 4 A2 (in), 5 Y7 (hiz), 6 A3 (in), 7 Y6 (hiz), 8 A4 (in), 9 Y5 (hiz), 10 GND (power), 11 A5 (in), 12 Y4 (hiz), 13 A6  (in), 14 Y3 (hiz), 15 A7  (in), 16 Y2 (hiz), 17 A8 (in), 18 Y1 (hiz), 19 OE (in), 20 VCC (power)

## SN74AC244PWLE
designator U?
Octal Buffer/Driver with 3-State Outputs; Package Information: Latest Revision: Feb-1999; Published: 8-Jun-2000; Revision: 17-Jul-2002: Re-released for DXP Platform.; Datasheet: Latest Revision: Sep-1996; Package Reference: PW020; Publisher: Altium Limited
footprint PW020 (Shrink Small Outline; 20 Leads; Body Width 4.4 mm; Pitch 0.65 mm)
signal-integrity model SN74AC244PWLE
pins: 1 ~{OE}1 (in), 2 A1 (in), 3 Y8 (hiz), 4 A2 (in), 5 Y7 (hiz), 6 A3 (in), 7 Y6 (hiz), 8 A4 (in), 9 Y5 (hiz), 10 GND (power), 11 A5 (in), 12 Y4 (hiz), 13 A6 (in), 14 Y3 (hiz), 15 A7 (in), 16 Y2 (hiz), 17 A8 (in), 18 Y1 (hiz), 19 ~{OE}2 (in), 20 VCC (power)

## SN74ACT241DW
designator U?
Octal Buffer/Driver with 3-State Outputs; Package Information: Latest Revision: Mar-2000; Code - JEDEC: MS-013; Published: 8-Jun-2000; Revision: 17-Jul-2002: Re-released for DXP Platform.; Datasheet: Latest Revision: May-1996; Package Reference: DW020; Publisher: Altium Limited
footprint DW020 (Plastic Small Outline; 20 Leads; Body Width 7.5 mm)
signal-integrity model SN74ACT241DW
pins: 1 ~{OE}  (in), 2 A1 (in), 3 Y8 (hiz), 4 A2 (in), 5 Y7 (hiz), 6 A3 (in), 7 Y6 (hiz), 8 A4 (in), 9 Y5 (hiz), 10 GND (power), 11 A5 (in), 12 Y4 (hiz), 13 A6  (in), 14 Y3 (hiz), 15 A7  (in), 16 Y2 (hiz), 17 A8 (in), 18 Y1 (hiz), 19 OE (in), 20 VCC (power)

## SN74ACT241N
designator U?
Octal Buffer/Driver with 3-State Outputs; Package Information: Latest Revision: Oct-1995; Published: 8-Jun-2000; Revision: 17-Jul-2002: Re-released for DXP Platform.; Datasheet: Latest Revision: May-1996; Package Reference: N020; Publisher: Altium Limited
footprint N020 (DIP; 20 Leads; Row Spacing 7.62 mm; Pitch 2.54 mm)
signal-integrity model SN74ACT241N
pins: 1 ~{OE}  (in), 2 A1 (in), 3 Y8 (hiz), 4 A2 (in), 5 Y7 (hiz), 6 A3 (in), 7 Y6 (hiz), 8 A4 (in), 9 Y5 (hiz), 10 GND (power), 11 A5 (in), 12 Y4 (hiz), 13 A6  (in), 14 Y3 (hiz), 15 A7  (in), 16 Y2 (hiz), 17 A8 (in), 18 Y1 (hiz), 19 OE (in), 20 VCC (power)

## SN74ACT241PWLE
designator U?
Octal Buffer/Driver with 3-State Outputs; Package Information: Latest Revision: Feb-1999; Published: 8-Jun-2000; Revision: 17-Jul-2002: Re-released for DXP Platform.; Datasheet: Latest Revision: May-1996; Package Reference: PW020; Publisher: Altium Limited
footprint PW020 (Shrink Small Outline; 20 Leads; Body Width 4.4 mm; Pitch 0.65 mm)
signal-integrity model SN74ACT241PWLE
pins: 1 ~{OE}  (in), 2 A1 (in), 3 Y8 (hiz), 4 A2 (in), 5 Y7 (hiz), 6 A3 (in), 7 Y6 (hiz), 8 A4 (in), 9 Y5 (hiz), 10 GND (power), 11 A5 (in), 12 Y4 (hiz), 13 A6  (in), 14 Y3 (hiz), 15 A7  (in), 16 Y2 (hiz), 17 A8 (in), 18 Y1 (hiz), 19 OE (in), 20 VCC (power)

## SN74ACT244PWLE
designator U?
Octal Buffer/Driver with 3-State Outputs; Package Information: Latest Revision: Feb-1999; Published: 8-Jun-2000; Revision: 17-Jul-2002: Re-released for DXP Platform.; Datasheet: Latest Revision: May-1996; Package Reference: PW020; Publisher: Altium Limited
footprint PW020 (Shrink Small Outline; 20 Leads; Body Width 4.4 mm; Pitch 0.65 mm)
signal-integrity model SN74ACT244PWLE
pins: 1 ~{OE}1 (in), 2 A1 (in), 3 Y8 (hiz), 4 A2 (in), 5 Y7 (hiz), 6 A3 (in), 7 Y6 (hiz), 8 A4 (in), 9 Y5 (hiz), 10 GND (power), 11 A5 (in), 12 Y4 (hiz), 13 A6 (in), 14 Y3 (hiz), 15 A7 (in), 16 Y2 (hiz), 17 A8 (in), 18 Y1 (hiz), 19 ~{OE}2 (in), 20 VCC (power)

## SN74ACT1284DB
designator U?
7-Bit Bus Interface with 3-State Outputs; Package Information: Latest Revision: May-1999; Code - JEDEC: MO-150-AE; Published: 8-Jun-2000; Revision: 17-Jul-2002: Re-released for DXP Platform.; Datasheet: Latest Revision: Apr-1996; Package Reference: DB020; Publisher: Altium Limited
footprint DB020 (Plastic SSOP; 20 Leads; Body Width 5.3 mm; Pitch 0.65 mm)
signal-integrity model SN74ACT1284DB
pins: 1 A1 (io), 2 A2 (io), 3 A3 (io), 4 A4 (io), 5 GND (power), 6 GND (power), 7 A5 (in), 8 A6 (in), 9 A7 (in), 10 DIR (in), 11 HD (in), 12 B7 (hiz), 13 B6 (hiz), 14 B5 (hiz), 15 VCC (power), 16 VCC (power), 17 B4 (io), 18 B3 (io), 19 B2 (io), 20 B1 (io)

## SN74ACT1284DW
designator U?
7-Bit Bus Interface with 3-State Outputs; Package Information: Latest Revision: Mar-2000; Code - JEDEC: MS-013; Published: 8-Jun-2000; Revision: 17-Jul-2002: Re-released for DXP Platform.; Datasheet: Latest Revision: Apr-1996; Package Reference: DW020; Publisher: Altium Limited
footprint DW020 (Plastic Small Outline; 20 Leads; Body Width 7.5 mm)
signal-integrity model SN74ACT1284DW
pins: 1 A1 (io), 2 A2 (io), 3 A3 (io), 4 A4 (io), 5 GND (power), 6 GND (power), 7 A5 (in), 8 A6 (in), 9 A7 (in), 10 DIR (in), 11 HD (in), 12 B7 (hiz), 13 B6 (hiz), 14 B5 (hiz), 15 VCC (power), 16 VCC (power), 17 B4 (io), 18 B3 (io), 19 B2 (io), 20 B1 (io)

## SN74AHC125D
designator U?
Quadruple Bus Buffer Gate with 3-State Outputs; Package Information: Latest Revision: Jan-1998; Published: 8-Jun-2000; Revision: 17-Jul-2002: Re-released for DXP Platform.; Datasheet: Latest Revision: Jul-1998; Package Reference: D014; Publisher: Altium Limited
footprint D014 (Small Outline; 14 Leads; Body Width 3.9 mm; Pitch 1.27 mm)
signal-integrity model SN74AHC125D
pins: 1 ~{OE}1 (in), 2 A1 (in), 3 Y1 (hiz), 4 ~{OE}2 (in), 5 A2 (in), 6 Y2 (hiz), 7 GND (power), 8 Y3 (hiz), 9 A3 (in), 10 ~{OE}3 (in), 11 Y4 (hiz), 12 A4 (in), 13 ~{OE}4 (in), 14 VCC (power)

## SN74AHC125DBLE
designator U?
Quadruple Bus Buffer Gate with 3-State Outputs; Package Information: Latest Revision: May-1999; Code - JEDEC: MO-150-AB; Published: 8-Jun-2000; Revision: 17-Jul-2002: Re-released for DXP Platform.; Datasheet: Latest Revision: Jul-1998; Package Reference: DB014; Publisher: Altium Limited
footprint DB014 (Plastic SSOP; 14 Leads; Body Width 5.3 mm; Pitch 0.65 mm)
signal-integrity model SN74AHC125DBLE
pins: 1 ~{OE}1 (in), 2 A1 (in), 3 Y1 (hiz), 4 ~{OE}2 (in), 5 A2 (in), 6 Y2 (hiz), 7 GND (power), 8 Y3 (hiz), 9 A3 (in), 10 ~{OE}3 (in), 11 Y4 (hiz), 12 A4 (in), 13 ~{OE}4 (in), 14 VCC (power)

## SN74AHC125N
designator U?
Quadruple Bus Buffer Gate with 3-State Outputs; Package Information: Latest Revision: Oct-1995; Published: 8-Jun-2000; Revision: 17-Jul-2002: Re-released for DXP Platform.; Datasheet: Latest Revision: Jul-1998; Package Reference: N014; Publisher: Altium Limited
footprint N014 (DIP; 14 Leads; Row Spacing 7.62 mm; Pitch 2.54 mm)
signal-integrity model SN74AHC125N
pins: 1 ~{OE}1 (in), 2 A1 (in), 3 Y1 (hiz), 4 ~{OE}2 (in), 5 A2 (in), 6 Y2 (hiz), 7 GND (power), 8 Y3 (hiz), 9 A3 (in), 10 ~{OE}3 (in), 11 Y4 (hiz), 12 A4 (in), 13 ~{OE}4 (in), 14 VCC (power)

## SN74AHC125PWLE
designator U?
Quadruple Bus Buffer Gate with 3-State Outputs; Package Information: Latest Revision: Feb-1999; Published: 8-Jun-2000; Revision: 17-Jul-2002: Re-released for DXP Platform.; Datasheet: Latest Revision: Jul-1998; Package Reference: PW014; Publisher: Altium Limited
footprint PW014 (Shrink Small Outline; 14 Leads; Body Width 4.4 mm; Pitch 0.65 mm)
signal-integrity model SN74AHC125PWLE
pins: 1 ~{OE}1 (in), 2 A1 (in), 3 Y1 (hiz), 4 ~{OE}2 (in), 5 A2 (in), 6 Y2 (hiz), 7 GND (power), 8 Y3 (hiz), 9 A3 (in), 10 ~{OE}3 (in), 11 Y4 (hiz), 12 A4 (in), 13 ~{OE}4 (in), 14 VCC (power)

## SN74AHC126D
designator U?
Quadruple Bus Buffer Gate with 3-State Outputs; Package Information: Latest Revision: Jan-1998; Published: 8-Jun-2000; Revision: 17-Jul-2002: Re-released for DXP Platform.; Datasheet: Latest Revision: Feb-1999; Package Reference: D014; Publisher: Altium Limited
footprint D014 (Small Outline; 14 Leads; Body Width 3.9 mm; Pitch 1.27 mm)
signal-integrity model SN74AHC126D
pins on every part: 7 GND (power) hidden to GND, 14 VCC (power) hidden to VCC
part A pins: 1 OE (in), 2 A (in), 3 Y (hiz)
part B pins: 4 OE (in), 5 A (in), 6 Y (hiz)
part C pins: 8 Y (hiz), 9 A (in), 10 OE (in)
part D pins: 11 Y (hiz), 12 A (in), 13 OE (in)

## SN74AHC126DBLE
designator U?
Quadruple Bus Buffer Gate with 3-State Outputs; Package Information: Latest Revision: May-1999; Code - JEDEC: MO-150-AB; Published: 8-Jun-2000; Revision: 17-Jul-2002: Re-released for DXP Platform.; Datasheet: Latest Revision: Feb-1999; Package Reference: DB014; Publisher: Altium Limited
footprint DB014 (Plastic SSOP; 14 Leads; Body Width 5.3 mm; Pitch 0.65 mm)
signal-integrity model SN74AHC126DBLE
pins on every part: 7 GND (power) hidden to GND, 14 VCC (power) hidden to VCC
part A pins: 1 OE (in), 2 A (in), 3 Y (hiz)
part B pins: 4 OE (in), 5 A (in), 6 Y (hiz)
part C pins: 8 Y (hiz), 9 A (in), 10 OE (in)
part D pins: 11 Y (hiz), 12 A (in), 13 OE (in)

## SN74AHC126N
designator U?
Quadruple Bus Buffer Gate with 3-State Outputs; Package Information: Latest Revision: Oct-1995; Published: 8-Jun-2000; Revision: 17-Jul-2002: Re-released for DXP Platform.; Datasheet: Latest Revision: Feb-1999; Package Reference: N014; Publisher: Altium Limited
footprint N014 (DIP; 14 Leads; Row Spacing 7.62 mm; Pitch 2.54 mm)
signal-integrity model SN74AHC126N
pins on every part: 7 GND (power) hidden to GND, 14 VCC (power) hidden to VCC
part A pins: 1 OE (in), 2 A (in), 3 Y (hiz)
part B pins: 4 OE (in), 5 A (in), 6 Y (hiz)
part C pins: 8 Y (hiz), 9 A (in), 10 OE (in)
part D pins: 11 Y (hiz), 12 A (in), 13 OE (in)

## SN74AHC126PWLE
designator U?
Quadruple Bus Buffer Gate with 3-State Outputs; Package Information: Latest Revision: Feb-1999; Published: 8-Jun-2000; Revision: 17-Jul-2002: Re-released for DXP Platform.; Datasheet: Latest Revision: Feb-1999; Package Reference: PW014; Publisher: Altium Limited
footprint PW014 (Shrink Small Outline; 14 Leads; Body Width 4.4 mm; Pitch 0.65 mm)
signal-integrity model SN74AHC126PWLE
pins on every part: 7 GND (power) hidden to GND, 14 VCC (power) hidden to VCC
part A pins: 1 OE (in), 2 A (in), 3 Y (hiz)
part B pins: 4 OE (in), 5 A (in), 6 Y (hiz)
part C pins: 8 Y (hiz), 9 A (in), 10 OE (in)
part D pins: 11 Y (hiz), 12 A (in), 13 OE (in)

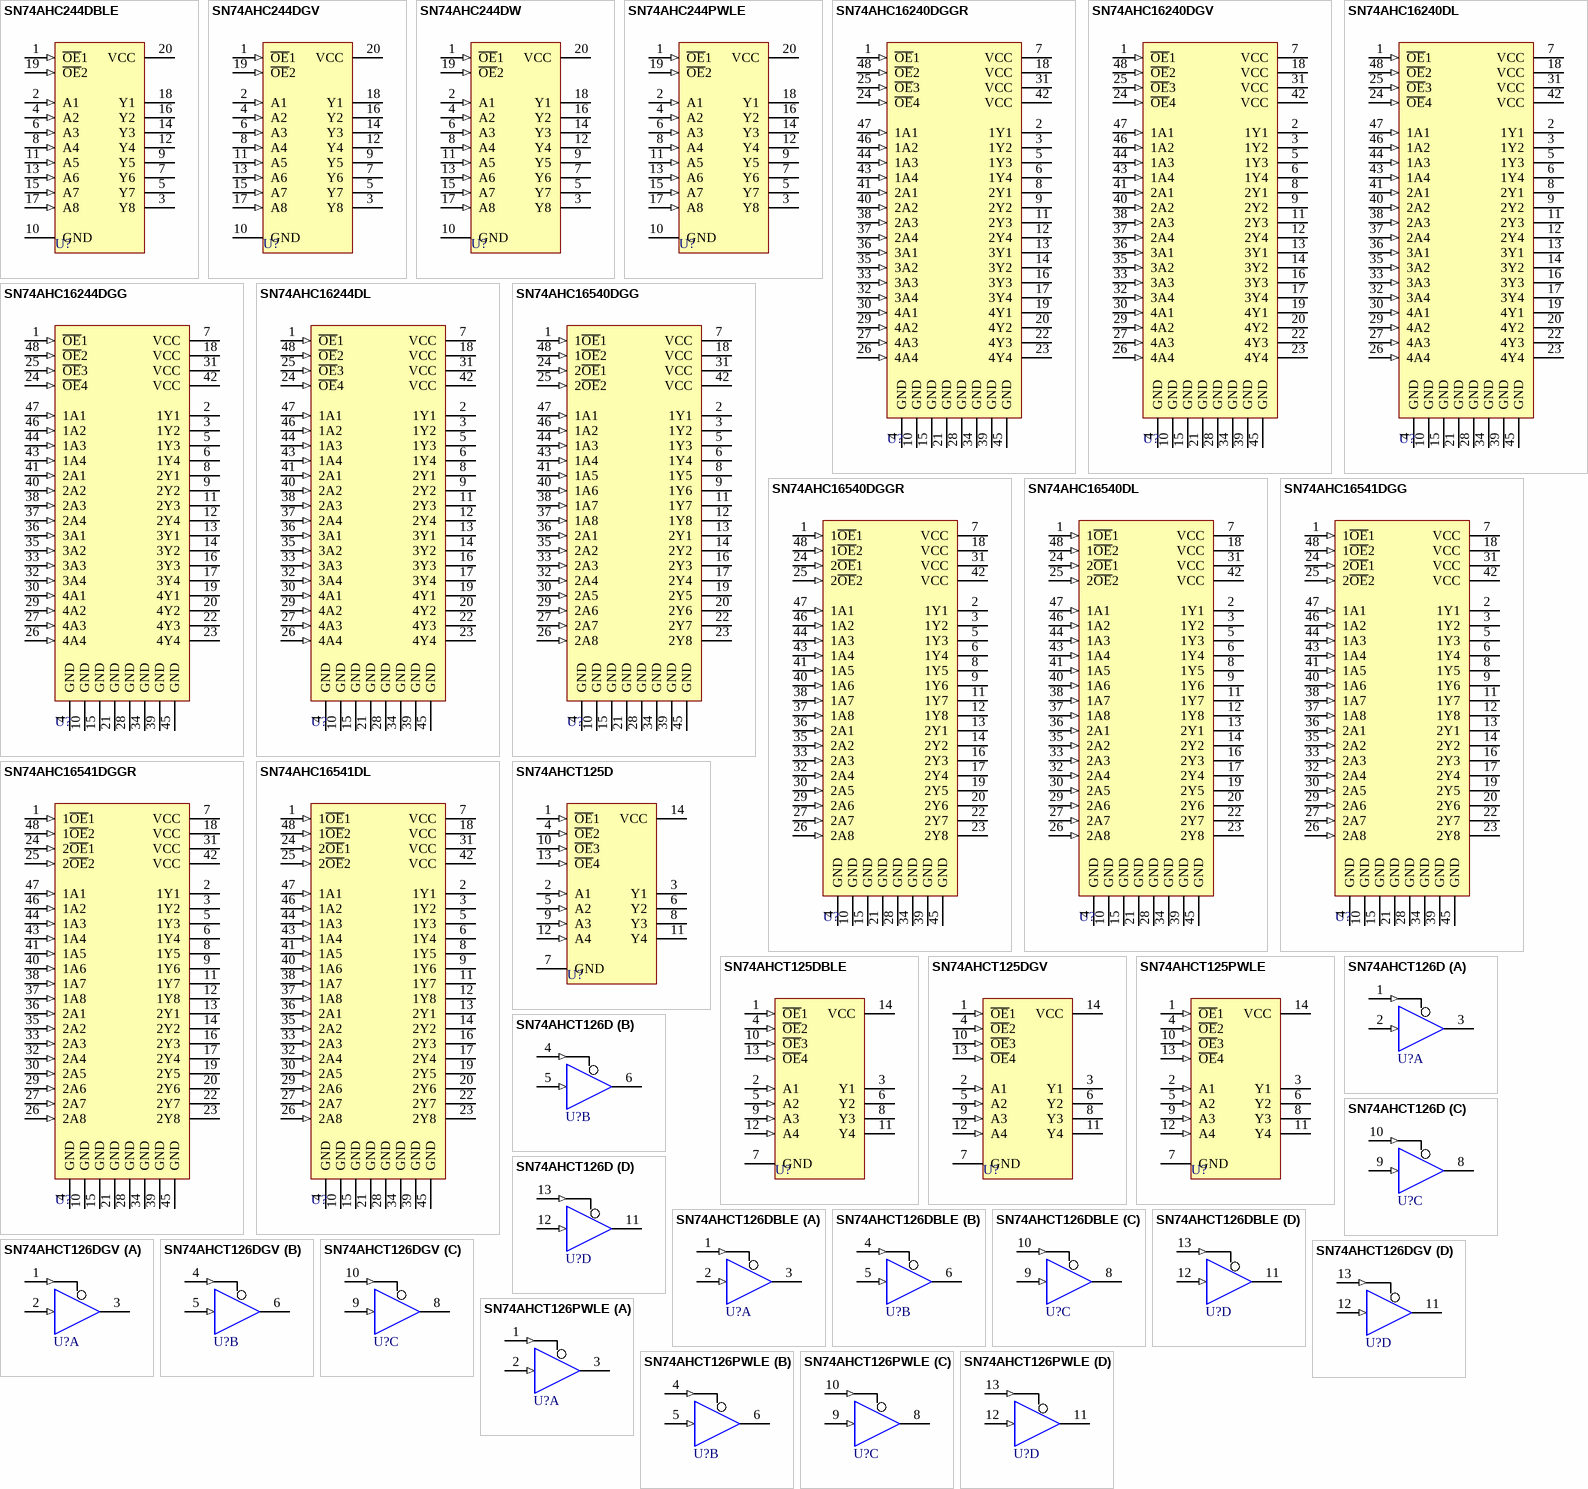
[diagram p19: symbols SN74AHC244DBLE to SN74AHCT126PWLE]

## SN74AHC244DBLE
designator U?
Octal Buffer/Driver with 3-State Outputs; Package Information: Latest Revision: May-1999; Code - JEDEC: MO-150-AE; Published: 8-Jun-2000; Revision: 17-Jul-2002: Re-released for DXP Platform.; Datasheet: Latest Revision: Jul-1998; Package Reference: DB020; Publisher: Altium Limited
footprint DB020 (Plastic SSOP; 20 Leads; Body Width 5.3 mm; Pitch 0.65 mm)
signal-integrity model SN74AHC244DBLE
pins: 1 ~{OE}1 (in), 2 A1 (in), 3 Y8 (hiz), 4 A2 (in), 5 Y7 (hiz), 6 A3 (in), 7 Y6 (hiz), 8 A4 (in), 9 Y5 (hiz), 10 GND (power), 11 A5 (in), 12 Y4 (hiz), 13 A6 (in), 14 Y3 (hiz), 15 A7 (in), 16 Y2 (hiz), 17 A8 (in), 18 Y1 (hiz), 19 ~{OE}2 (in), 20 VCC (power)

## SN74AHC244DGV
designator U?
Octal Buffer/Driver with 3-State Outputs; Package Information: Latest Revision: Mar-1999; Published: 8-Jun-2000; Revision: 17-Jul-2002: Re-released for DXP Platform.; Datasheet: Latest Revision: Jul-1998; Package Reference: DGV020; Publisher: Altium Limited
footprint DGV020 (Shrink Small Outline; 20 Leads; Body Width 4.4 mm; Pitch 0.4 mm)
signal-integrity model SN74AHC244DGV
pins: 1 ~{OE}1 (in), 2 A1 (in), 3 Y8 (hiz), 4 A2 (in), 5 Y7 (hiz), 6 A3 (in), 7 Y6 (hiz), 8 A4 (in), 9 Y5 (hiz), 10 GND (power), 11 A5 (in), 12 Y4 (hiz), 13 A6 (in), 14 Y3 (hiz), 15 A7 (in), 16 Y2 (hiz), 17 A8 (in), 18 Y1 (hiz), 19 ~{OE}2 (in), 20 VCC (power)

## SN74AHC244DW
designator U?
Octal Buffer/Driver with 3-State Outputs; Package Information: Latest Revision: Mar-2000; Code - JEDEC: MS-013; Published: 8-Jun-2000; Revision: 17-Jul-2002: Re-released for DXP Platform.; Datasheet: Latest Revision: Jul-1998; Package Reference: DW020; Publisher: Altium Limited
footprint DW020 (Plastic Small Outline; 20 Leads; Body Width 7.5 mm)
signal-integrity model SN74AHC244DW
pins: 1 ~{OE}1 (in), 2 A1 (in), 3 Y8 (hiz), 4 A2 (in), 5 Y7 (hiz), 6 A3 (in), 7 Y6 (hiz), 8 A4 (in), 9 Y5 (hiz), 10 GND (power), 11 A5 (in), 12 Y4 (hiz), 13 A6 (in), 14 Y3 (hiz), 15 A7 (in), 16 Y2 (hiz), 17 A8 (in), 18 Y1 (hiz), 19 ~{OE}2 (in), 20 VCC (power)

## SN74AHC244PWLE
designator U?
Octal Buffer/Driver with 3-State Outputs; Package Information: Latest Revision: Feb-1999; Published: 8-Jun-2000; Revision: 17-Jul-2002: Re-released for DXP Platform.; Datasheet: Latest Revision: Jul-1998; Package Reference: PW020; Publisher: Altium Limited
footprint PW020 (Shrink Small Outline; 20 Leads; Body Width 4.4 mm; Pitch 0.65 mm)
signal-integrity model SN74AHC244PWLE
pins: 1 ~{OE}1 (in), 2 A1 (in), 3 Y8 (hiz), 4 A2 (in), 5 Y7 (hiz), 6 A3 (in), 7 Y6 (hiz), 8 A4 (in), 9 Y5 (hiz), 10 GND (power), 11 A5 (in), 12 Y4 (hiz), 13 A6 (in), 14 Y3 (hiz), 15 A7 (in), 16 Y2 (hiz), 17 A8 (in), 18 Y1 (hiz), 19 ~{OE}2 (in), 20 VCC (power)

## SN74AHC16240DGGR
designator U?
16-Bit Buffer/Driver with 3-State Outputs; Package Information: Latest Revision: Jan-1998; Published: 8-Jun-2000; Revision: 17-Jul-2002: Re-released for DXP Platform.; Datasheet: Latest Revision: Jul-1998; Package Reference: DGG048; Publisher: Altium Limited
footprint DGG048 (Shrink Small Outline; 48 Leads; Body Width 6.1 mm; Pitch 0.5 mm)
signal-integrity model SN74AHC16240DGGR
pins: 1 ~{OE}1 (in), 2 1Y1 (hiz), 3 1Y2 (hiz), 4 GND (power), 5 1Y3 (hiz), 6 1Y4 (hiz), 7 VCC (power), 8 2Y1 (hiz), 9 2Y2 (hiz), 10 GND (power), 11 2Y3 (hiz), 12 2Y4 (hiz), 13 3Y1 (hiz), 14 3Y2 (hiz), 15 GND (power), 16 3Y3 (hiz), 17 3Y4 (hiz), 18 VCC (power), 19 4Y1 (hiz), 20 4Y2 (hiz), 21 GND (power), 22 4Y3 (hiz), 23 4Y4 (hiz), 24 ~{OE}4 (in), 25 ~{OE}3 (in), 26 4A4 (in), 27 4A3 (in), 28 GND (power), 29 4A2 (in), 30 4A1 (in), 31 VCC (power), 32 3A4 (in), 33 3A3 (in), 34 GND (power), 35 3A2 (in), 36 3A1 (in), 37 2A4 (in), 38 2A3 (in), 39 GND (power), 40 2A2 (in), 41 2A1 (in), 42 VCC (power), 43 1A4 (in), 44 1A3 (in), 45 GND (power), 46 1A2 (in), 47 1A1 (in), 48 ~{OE}2 (in)

## SN74AHC16240DGV
designator U?
16-Bit Buffer/Driver with 3-State Outputs; Package Information: Latest Revision: Mar-1999; Published: 8-Jun-2000; Revision: 17-Jul-2002: Re-released for DXP Platform.; Datasheet: Latest Revision: Jul-1998; Package Reference: DGV048; Publisher: Altium Limited
footprint DGV048 (Shrink Small Outline; 48 Leads; Body Width 4.4 mm; Pitch 0.4 mm)
signal-integrity model SN74AHC16240DGV
pins: 1 ~{OE}1 (in), 2 1Y1 (hiz), 3 1Y2 (hiz), 4 GND (power), 5 1Y3 (hiz), 6 1Y4 (hiz), 7 VCC (power), 8 2Y1 (hiz), 9 2Y2 (hiz), 10 GND (power), 11 2Y3 (hiz), 12 2Y4 (hiz), 13 3Y1 (hiz), 14 3Y2 (hiz), 15 GND (power), 16 3Y3 (hiz), 17 3Y4 (hiz), 18 VCC (power), 19 4Y1 (hiz), 20 4Y2 (hiz), 21 GND (power), 22 4Y3 (hiz), 23 4Y4 (hiz), 24 ~{OE}4 (in), 25 ~{OE}3 (in), 26 4A4 (in), 27 4A3 (in), 28 GND (power), 29 4A2 (in), 30 4A1 (in), 31 VCC (power), 32 3A4 (in), 33 3A3 (in), 34 GND (power), 35 3A2 (in), 36 3A1 (in), 37 2A4 (in), 38 2A3 (in), 39 GND (power), 40 2A2 (in), 41 2A1 (in), 42 VCC (power), 43 1A4 (in), 44 1A3 (in), 45 GND (power), 46 1A2 (in), 47 1A1 (in), 48 ~{OE}2 (in)

## SN74AHC16240DL
designator U?
16-Bit Buffer/Driver with 3-State Outputs; Package Information: Latest Revision: Jan-1998; Code - JEDEC: MO-118-AA; Code - IPC: SSO48; Published: 8-Jun-2000; Revision: 17-Jul-2002: Re-released for DXP Platform.; Datasheet: Latest Revision: Jul-1998; Package Reference: DL048; Publisher: Altium Limited
footprint DL048 (SSOP; 48 Leads; Body Width 7.5 mm; Pitch 0.635 mm)
signal-integrity model SN74AHC16240DL
pins: 1 ~{OE}1 (in), 2 1Y1 (hiz), 3 1Y2 (hiz), 4 GND (power), 5 1Y3 (hiz), 6 1Y4 (hiz), 7 VCC (power), 8 2Y1 (hiz), 9 2Y2 (hiz), 10 GND (power), 11 2Y3 (hiz), 12 2Y4 (hiz), 13 3Y1 (hiz), 14 3Y2 (hiz), 15 GND (power), 16 3Y3 (hiz), 17 3Y4 (hiz), 18 VCC (power), 19 4Y1 (hiz), 20 4Y2 (hiz), 21 GND (power), 22 4Y3 (hiz), 23 4Y4 (hiz), 24 ~{OE}4 (in), 25 ~{OE}3 (in), 26 4A4 (in), 27 4A3 (in), 28 GND (power), 29 4A2 (in), 30 4A1 (in), 31 VCC (power), 32 3A4 (in), 33 3A3 (in), 34 GND (power), 35 3A2 (in), 36 3A1 (in), 37 2A4 (in), 38 2A3 (in), 39 GND (power), 40 2A2 (in), 41 2A1 (in), 42 VCC (power), 43 1A4 (in), 44 1A3 (in), 45 GND (power), 46 1A2 (in), 47 1A1 (in), 48 ~{OE}2 (in)

## SN74AHC16244DGG
designator U?
16-Bit Buffer/Driver with 3-State Outputs; Package Information: Latest Revision: Jan-1998; Published: 8-Jun-2000; Revision: 17-Jul-2002: Re-released for DXP Platform.; Datasheet: Latest Revision: Jul-1998; Package Reference: DGG048; Publisher: Altium Limited
footprint DGG048 (Shrink Small Outline; 48 Leads; Body Width 6.1 mm; Pitch 0.5 mm)
signal-integrity model SN74AHC16244DGG
pins: 1 ~{OE}1 (in), 2 1Y1 (hiz), 3 1Y2 (hiz), 4 GND (power), 5 1Y3 (hiz), 6 1Y4 (hiz), 7 VCC (power), 8 2Y1 (hiz), 9 2Y2 (hiz), 10 GND (power), 11 2Y3 (hiz), 12 2Y4 (hiz), 13 3Y1 (hiz), 14 3Y2 (hiz), 15 GND (power), 16 3Y3 (hiz), 17 3Y4 (hiz), 18 VCC (power), 19 4Y1 (hiz), 20 4Y2 (hiz), 21 GND (power), 22 4Y3 (hiz), 23 4Y4 (hiz), 24 ~{OE}4 (in), 25 ~{OE}3 (in), 26 4A4 (in), 27 4A3 (in), 28 GND (power), 29 4A2 (in), 30 4A1 (in), 31 VCC (power), 32 3A4 (in), 33 3A3 (in), 34 GND (power), 35 3A2 (in), 36 3A1 (in), 37 2A4 (in), 38 2A3 (in), 39 GND (power), 40 2A2 (in), 41 2A1 (in), 42 VCC (power), 43 1A4 (in), 44 1A3 (in), 45 GND (power), 46 1A2 (in), 47 1A1 (in), 48 ~{OE}2 (in)

## SN74AHC16244DL
designator U?
16-Bit Buffer/Driver with 3-State Outputs; Package Information: Latest Revision: Jan-1998; Code - JEDEC: MO-118-AA; Code - IPC: SSO48; Published: 8-Jun-2000; Revision: 17-Jul-2002: Re-released for DXP Platform.; Datasheet: Latest Revision: Jul-1998; Package Reference: DL048; Publisher: Altium Limited
footprint DL048 (SSOP; 48 Leads; Body Width 7.5 mm; Pitch 0.635 mm)
signal-integrity model SN74AHC16244DL
pins: 1 ~{OE}1 (in), 2 1Y1 (hiz), 3 1Y2 (hiz), 4 GND (power), 5 1Y3 (hiz), 6 1Y4 (hiz), 7 VCC (power), 8 2Y1 (hiz), 9 2Y2 (hiz), 10 GND (power), 11 2Y3 (hiz), 12 2Y4 (hiz), 13 3Y1 (hiz), 14 3Y2 (hiz), 15 GND (power), 16 3Y3 (hiz), 17 3Y4 (hiz), 18 VCC (power), 19 4Y1 (hiz), 20 4Y2 (hiz), 21 GND (power), 22 4Y3 (hiz), 23 4Y4 (hiz), 24 ~{OE}4 (in), 25 ~{OE}3 (in), 26 4A4 (in), 27 4A3 (in), 28 GND (power), 29 4A2 (in), 30 4A1 (in), 31 VCC (power), 32 3A4 (in), 33 3A3 (in), 34 GND (power), 35 3A2 (in), 36 3A1 (in), 37 2A4 (in), 38 2A3 (in), 39 GND (power), 40 2A2 (in), 41 2A1 (in), 42 VCC (power), 43 1A4 (in), 44 1A3 (in), 45 GND (power), 46 1A2 (in), 47 1A1 (in), 48 ~{OE}2 (in)

## SN74AHC16540DGG
designator U?
16-Bit Buffer/Driver with 3-State Outputs; Package Information: Latest Revision: Jan-1998; Published: 8-Jun-2000; Revision: 17-Jul-2002: Re-released for DXP Platform.; Datasheet: Latest Revision: Jul-1998; Package Reference: DGG048; Publisher: Altium Limited
footprint DGG048 (Shrink Small Outline; 48 Leads; Body Width 6.1 mm; Pitch 0.5 mm)
signal-integrity model SN74AHC16540DGG
pins: 1 1~{OE}1 (in), 2 1Y1 (hiz), 3 1Y2 (hiz), 4 GND (power), 5 1Y3 (hiz), 6 1Y4 (hiz), 7 VCC (power), 8 1Y5 (hiz), 9 1Y6 (hiz), 10 GND (power), 11 1Y7 (hiz), 12 1Y8 (hiz), 13 2Y1 (hiz), 14 2Y2 (hiz), 15 GND (power), 16 2Y3 (hiz), 17 2Y4 (hiz), 18 VCC (power), 19 2Y5 (hiz), 20 2Y6 (hiz), 21 GND (power), 22 2Y7 (hiz), 23 2Y8 (hiz), 24 2~{OE}1 (in), 25 2~{OE}2 (in), 26 2A8 (in), 27 2A7 (in), 28 GND (power), 29 2A6 (in), 30 2A5 (in), 31 VCC (power), 32 2A4 (in), 33 2A3 (in), 34 GND (power), 35 2A2 (in), 36 2A1 (in), 37 1A8 (in), 38 1A7 (in), 39 GND (power), 40 1A6 (in), 41 1A5 (in), 42 VCC (power), 43 1A4 (in), 44 1A3 (in), 45 GND (power), 46 1A2 (in), 47 1A1 (in), 48 1~{OE}2 (in)